# Altium schematic symbol library MCU_ST_STM32MP1.SchLib: 84 symbols (part 1 of 7)
Pins are listed as number, name and electrical type; pins without a type are passive.

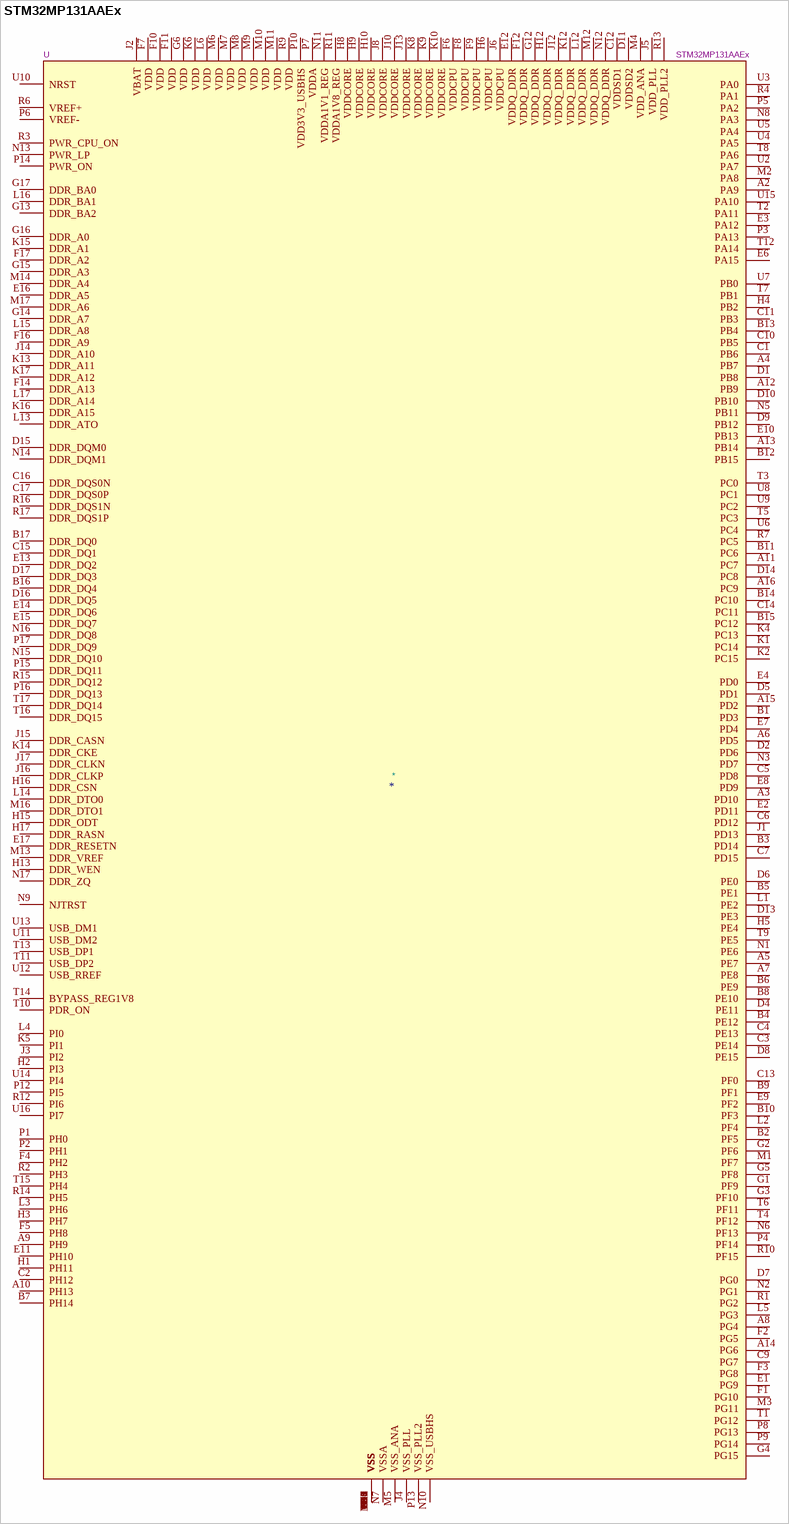
[diagram p0: symbol STM32MP131AAEx]

## STM32MP131AAEx
designator *  value STM32MP131AAEx  Reference: U
STMicroelectronics Arm Cortex-A7 MCU, 0KB flash, 168KB RAM, 136 GPIO, LFBGA289; ki_keywords: Arm Cortex-A7 STM32MP1 STM32MP131; ki_fp_filters: LFBGA*14x14mm*Layout17x17*P0.8mm*; Footprint: Package_BGA:LFBGA-289_14x14mm_Layout17x17_P0.8mm; Datasheet: https://www.st.com/resource/en/datasheet/stm32mp131a.pdf; Description_: STMicroelectronics Arm Cortex-A7 MCU, 0KB flash, 168KB RAM, 136 GPIO, LFBGA289
pins: A1 VSS, A2 PA9, A3 PD10, A4 PB7, A5 PE7, A6 PD5, A7 PE8, A8 PG4, A9 PH9, A10 PH13, A11 PC7, A12 PB9, A13 PB14, A14 PG6, A15 PD2, A16 PC9, A17 VSS, B1 PD3, B2 PF5, B3 PD14, B4 PE12, B5 PE1, B6 PE9, B7 PH14, B8 PE10, B9 PF1, B10 PF3, B11 PC6, B12 PB15, B13 PB4, B14 PC10, B15 PC12, B16 DDR_DQ4, B17 DDR_DQ0, C1 PB6, C2 PH12, C3 PE14, C4 PE13, C5 PD8, C6 PD12, C7 PD15, C8 VSS, C9 PG7, C10 PB5, C11 PB3, C12 VDDSD1, C13 PF0, C14 PC11, C15 DDR_DQ1, C16 DDR_DQS0N, C17 DDR_DQS0P, D1 PB8, D2 PD6, D3 VSS, D4 PE11, D5 PD1, D6 PE0, D7 PG0, D8 PE15, D9 PB12, D10 PB10, D11 VDDSD2, D12 VSS, D13 PE3, D14 PC8, D15 DDR_DQM0, D16 DDR_DQ5, D17 DDR_DQ3, E1 PG9, E2 PD11, E3 PA12, E4 PD0, E5 VSS, E6 PA15, E7 PD4, E8 PD9, E9 PF2, E10 PB13, E11 PH10, E12 VDDQ_DDR, E13 DDR_DQ2, E14 DDR_DQ6, E15 DDR_DQ7, E16 DDR_A5, E17 DDR_RESETN, F1 PG10, F2 PG5, F3 PG8, F4 PH2, F5 PH8, F6 VDDCPU, F7 VDD, F8 VDDCPU, F9 VDDCPU, F10 VDD, F11 VDD, F12 VDDQ_DDR, F13 VSS, F14 DDR_A13, F15 VSS, F16 DDR_A9, F17 DDR_A2, G1 PF9, G2 PF6, G3 PF10, G4 PG15, G5 PF8, G6 VDD, G7 VSS, G8 VSS, G9 VSS, G10 VSS, G11 VSS, G12 VDDQ_DDR, G13 DDR_BA2, G14 DDR_A7, G15 DDR_A3, G16 DDR_A0, G17 DDR_BA0, H1 PH11, H2 PI3, H3 PH7, H4 PB2, H5 PE4, H6 VDDCPU, H7 VSS, H8 VDDCORE, H9 VDDCORE, H10 VDDCORE, H11 VSS, H12 VDDQ_DDR, H13 DDR_WEN, H14 VSS, H15 DDR_ODT, H16 DDR_CSN, H17 DDR_RASN, J1 PD13, J2 VBAT, J3 PI2, J4 VSS_PLL, J5 VDD_PLL, J6 VDDCPU, J7 VSS, J8 VDDCORE, J9 VSS, J10 VDDCORE, J11 VSS, J12 VDDQ_DDR, J13 VDDCORE, J14 DDR_A10, J15 DDR_CASN, J16 DDR_CLKP, J17 DDR_CLKN, K1 PC14, K2 PC15, K3 VSS, K4 PC13, K5 PI1, K6 VDD, K7 VSS, K8 VDDCORE, K9 VDDCORE, K10 VDDCORE, K11 VSS, K12 VDDQ_DDR, K13 DDR_A11, K14 DDR_CKE, K15 DDR_A1, K16 DDR_A15, K17 DDR_A12, L1 PE2, L2 PF4, L3 PH6, L4 PI0, L5 PG3, L6 VDD, L7 VSS, L8 VSS, L9 VSS, L10 VSS, L11 VSS, L12 VDDQ_DDR, L13 DDR_ATO, L14 DDR_DTO0, L15 DDR_A8, L16 DDR_BA1, L17 DDR_A14, M1 PF7, M2 PA8, M3 PG11, M4 VDD_ANA, M5 VSS_ANA, M6 VDD, M7 VDD, M8 VDD, M9 VDD, M10 VDD, M11 VDD, M12 VDDQ_DDR, M13 DDR_VREF, M14 DDR_A4, M15 VSS, M16 DDR_DTO1, M17 DDR_A6, N1 PE6, N2 PG1, N3 PD7, N4 VSS, N5 PB11, N6 PF13, N7 VSSA, N8 PA3, N9 NJTRST, N10 VSS_USBHS, N11 VDDA1V1_REG, N12 VDDQ_DDR, N13 PWR_LP, N14 DDR_DQM1, N15 DDR_DQ10, N16 DDR_DQ8, N17 DDR_ZQ, P1 PH0, P2 PH1, P3 PA13, P4 PF14, P5 PA2, P6 VREF-, P7 VDDA, P8 PG13, P9 PG14, P10 VDD3V3_USBHS, P11 VSS, P12 PI5, P13 VSS_PLL2, P14 PWR_ON, P15 DDR_DQ11, P16 DDR_DQ13, P17 DDR_DQ9, R1 PG2, R2 PH3, R3 PWR_CPU_ON, R4 PA1, R5 VSS, R6 VREF+, R7 PC5, R8 VSS, R9 VDD, R10 PF15, R11 VDDA1V8_REG, R12 PI6, R13 VDD_PLL2, R14 PH5, R15 DDR_DQ12, R16 DDR_DQS1N, R17 DDR_DQS1P, T1 PG12, T2 PA11, T3 PC0, T4 PF12, T5 PC3, T6 PF11, T7 PB1, T8 PA6, T9 PE5, T10 PDR_ON, T11 USB_DP2, T12 PA14, T13 USB_DP1, T14 BYPASS_REG1V8, T15 PH4, T16 DDR_DQ15, T17 DDR_DQ14, U1 VSS, U2 PA7, U3 PA0, U4 PA5, U5 PA4, U6 PC4, U7 PB0, U8 PC1, U9 PC2, U10 NRST, U11 USB_DM2, U12 USB_RREF, U13 USB_DM1, U14 PI4, U15 PA10, U16 PI7, U17 VSS

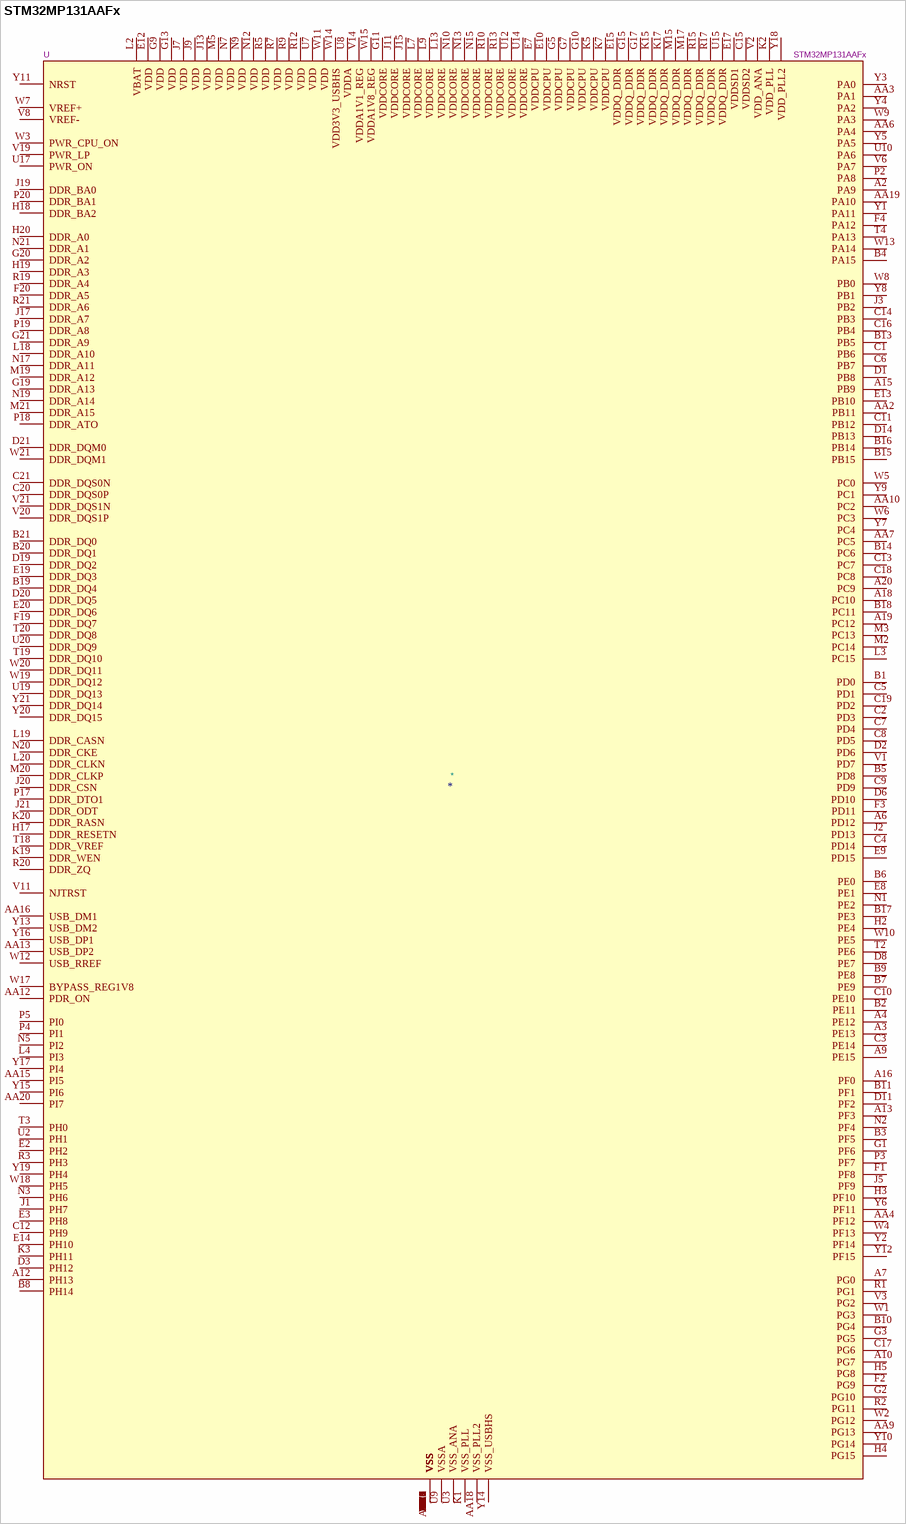
[diagram p1: symbol STM32MP131AAFx]

## STM32MP131AAFx
designator *  value STM32MP131AAFx  Reference: U
STMicroelectronics Arm Cortex-A7 MCU, 0KB flash, 168KB RAM, 136 GPIO, TFBGA320; ki_keywords: Arm Cortex-A7 STM32MP1 STM32MP131; ki_fp_filters: ST*TFBGA*11x11mm*Layout21x21*P0.5mm*; Footprint: Package_BGA:ST_TFBGA-320_11x11mm_Layout21x21_P0.5mm; Datasheet: https://www.st.com/resource/en/datasheet/stm32mp131a.pdf; Description_: STMicroelectronics Arm Cortex-A7 MCU, 0KB flash, 168KB RAM, 136 GPIO, TFBGA320
pins: A1 VSS, A2 PA9, A3 PE13, A4 PE12, A6 PD12, A7 PG0, A9 PE15, A10 PG7, A12 PH13, A13 PF3, A15 PB9, A16 PF0, A18 PC10, A19 PC12, A20 PC9, A21 VSS, AA1 VSS, AA2 PB11, AA3 PA1, AA4 PF12, AA6 PA4, AA7 PC5, AA9 PG13, AA10 PC2, AA12 PDR_ON, AA13 USB_DP2, AA15 PI5, AA16 USB_DM1, AA18 VSS_PLL2, AA19 PA10, AA20 PI7, AA21 VSS, B1 PD0, B2 PE11, B3 PF5, B4 PA15, B5 PD8, B6 PE0, B7 PE9, B8 PH14, B9 PE8, B10 PG4, B11 PF1, B12 VSS, B13 PB5, B14 PC6, B15 PB15, B16 PB14, B17 PE3, B18 PC11, B19 DDR_DQ4, B20 DDR_DQ1, B21 DDR_DQ0, C1 PB6, C2 PD3, C3 PE14, C4 PD14, C5 PD1, C6 PB7, C7 PD4, C8 PD5, C9 PD9, C10 PE10, C11 PB12, C12 PH9, C13 PC7, C14 PB3, C15 VDDSD2, C16 PB4, C17 PG6, C18 PC8, C19 PD2, C20 DDR_DQS0P, C21 DDR_DQS0N, D1 PB8, D2 PD6, D3 PH12, D6 PD10, D8 PE7, D11 PF2, D14 PB13, D16 VSS, D19 DDR_DQ2, D20 DDR_DQ5, D21 DDR_DQM0, E2 PH2, E3 PH8, E5 VSS, E6 VSS, E7 VDDCPU, E8 PE1, E9 PD15, E10 VDDCPU, E11 VSS, E12 VDD, E13 PB10, E14 PH10, E15 VDDQ_DDR, E16 VSS, E17 VDDSD1, E19 DDR_DQ3, E20 DDR_DQ6, F1 PF8, F2 PG9, F3 PD11, F4 PA12, F5 VSS, F17 VSS, F18 VSS, F19 DDR_DQ7, F20 DDR_A5, F21 VSS, G1 PF6, G2 PG10, G3 PG5, G5 VDDCPU, G7 VDDCPU, G8 VSS, G9 VDD, G10 VDDCPU, G11 VDDCORE, G12 VSS, G13 VDD, G14 VSS, G15 VDDQ_DDR, G17 VDDQ_DDR, G19 DDR_A13, G20 DDR_A2, G21 DDR_A9, H2 PE4, H3 PF10, H4 PG15, H5 PG8, H7 VSS, H15 VSS, H17 DDR_RESETN, H18 DDR_BA2, H19 DDR_A3, H20 DDR_A0, J1 PH7, J2 PD13, J3 PB2, J5 PF9, J7 VDD, J9 VDD, J10 VSS, J11 VDDCORE, J12 VSS, J13 VDD, J15 VDDCORE, J17 DDR_A7, J19 DDR_BA0, J20 DDR_CSN, J21 DDR_ODT, K1 VSS_PLL, K2 VDD_PLL, K3 PH11, K5 VDDCPU, K7 VDDCPU, K9 VSS, K10 VSS, K11 VSS, K12 VSS, K13 VSS, K15 VDDQ_DDR, K17 VDDQ_DDR, K19 DDR_WEN, K20 DDR_RASN, K21 VSS, L2 VBAT, L3 PC15, L4 PI3, L5 VSS, L7 VDDCORE, L9 VDDCORE, L10 VSS, L12 VSS, L13 VDDCORE, L15 VSS, L17 VSS, L18 DDR_A10, L19 DDR_CASN, L20 DDR_CLKN, M1 VSS, M2 PC14, M3 PC13, M5 VDD, M7 VSS, M9 VSS, M10 VSS, M11 VSS, M12 VSS, M13 VSS, M15 VDDQ_DDR, M17 VDDQ_DDR, M19 DDR_A12, M20 DDR_CLKP, M21 DDR_A15, N1 PE2, N2 PF4, N3 PH6, N5 PI2, N7 VDD, N9 VDD, N10 VDDCORE, N11 VSS, N12 VDD, N13 VDDCORE, N15 VDDCORE, N17 DDR_A11, N19 DDR_A14, N20 DDR_CKE, N21 DDR_A1, P2 PA8, P3 PF7, P4 PI1, P5 PI0, P7 VSS, P15 VSS, P17 DDR_DTO1, P18 DDR_ATO, P19 DDR_A8, P20 DDR_BA1, R1 PG1, R2 PG11, R3 PH3, R5 VDD, R7 VDD, R8 VSS, R9 VDD, R10 VDDCORE, R11 VSS, R12 VDD, R13 VDDCORE, R14 VSS, R15 VDDQ_DDR, R17 VDDQ_DDR, R19 DDR_A4, R20 DDR_ZQ, R21 DDR_A6, T1 VSS, T2 PE6, T3 PH0, T4 PA13, T5 VSS, T17 VSS, T18 DDR_VREF, T19 DDR_DQ10, T20 DDR_DQ8, T21 VSS, U2 PH1, U3 VSS_ANA, U5 VSS, U6 VSS, U7 VDD, U8 VDDA, U9 VSSA, U10 PA6, U11 VSS, U12 VDDCORE, U13 VSS, U14 VDDCORE, U15 VDDQ_DDR, U16 VSS, U17 PWR_ON, U19 DDR_DQ13, U20 DDR_DQ9, V1 PD7, V2 VDD_ANA, V3 PG2, V6 PA7, V8 VREF-, V11 NJTRST, V14 VDDA1V1_REG, V16 VSS, V19 PWR_LP, V20 DDR_DQS1P, V21 DDR_DQS1N, W1 PG3, W2 PG12, W3 PWR_CPU_ON, W4 PF13, W5 PC0, W6 PC3, W7 VREF+, W8 PB0, W9 PA3, W10 PE5, W11 VDD, W12 USB_RREF, W13 PA14, W14 VDD3V3_USBHS, W15 VDDA1V8_REG, W16 VSS, W17 BYPASS_REG1V8, W18 PH5, W19 DDR_DQ12, W20 DDR_DQ11, W21 DDR_DQM1, Y1 PA11, Y2 PF14, Y3 PA0, Y4 PA2, Y5 PA5, Y6 PF11, Y7 PC4, Y8 PB1, Y9 PC1, Y10 PG14, Y11 NRST, Y12 PF15, Y13 USB_DM2, Y14 VSS_USBHS, Y15 PI6, Y16 USB_DP1, Y17 PI4, Y18 VDD_PLL2, Y19 PH4, Y20 DDR_DQ15, Y21 DDR_DQ14

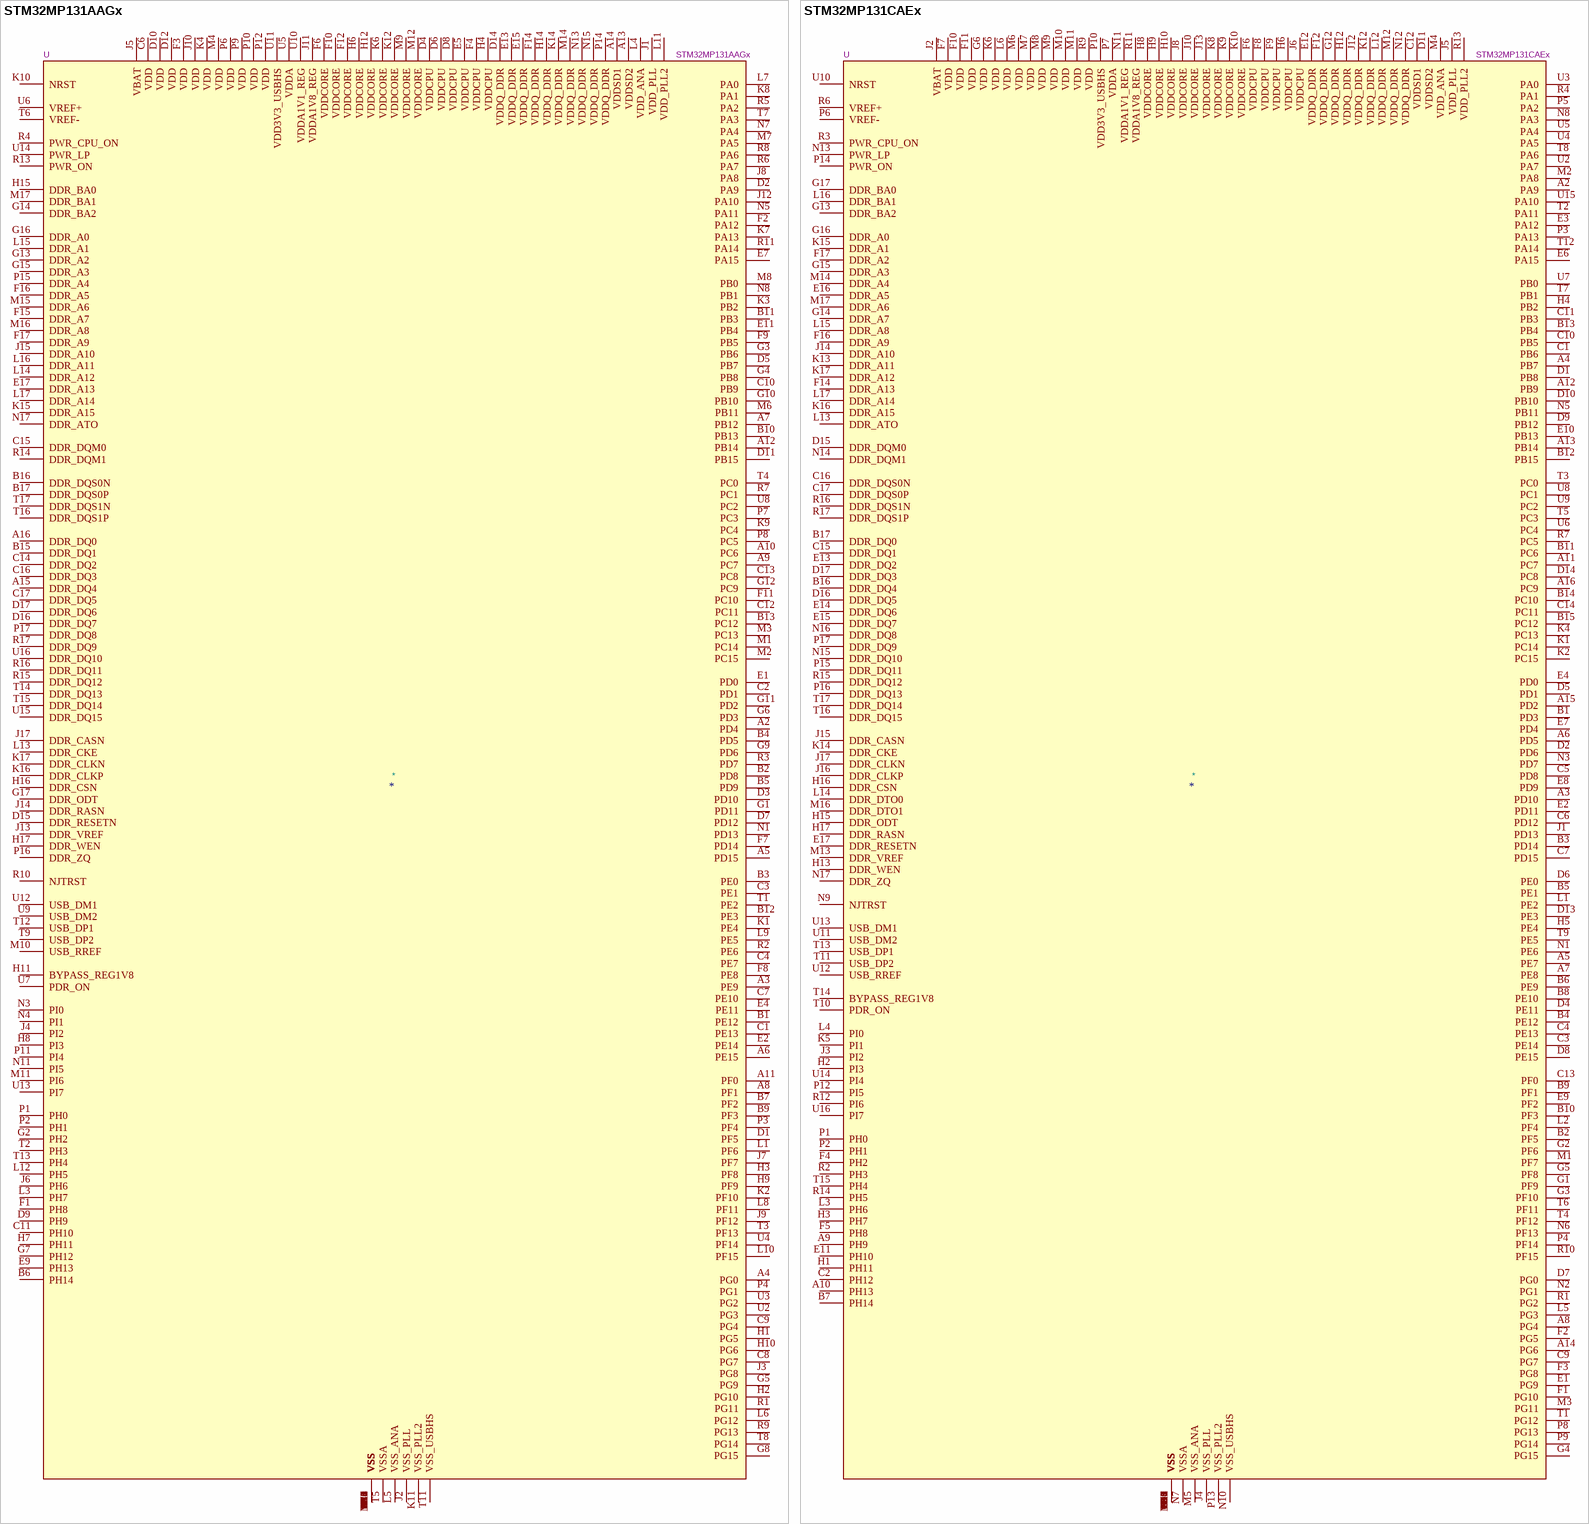
[diagram p2: symbols STM32MP131AAGx to STM32MP131CAEx]

## STM32MP131AAGx
designator *  value STM32MP131AAGx  Reference: U
STMicroelectronics Arm Cortex-A7 MCU, 0KB flash, 168KB RAM, 136 GPIO, TFBGA289; ki_keywords: Arm Cortex-A7 STM32MP1 STM32MP131; ki_fp_filters: TFBGA*9x9mm*Layout17x17*P0.5mm*; Footprint: Package_BGA:TFBGA-289_9x9mm_Layout17x17_P0.5mm; Datasheet: https://www.st.com/resource/en/datasheet/stm32mp131a.pdf; Description_: STMicroelectronics Arm Cortex-A7 MCU, 0KB flash, 168KB RAM, 136 GPIO, TFBGA289
pins: A1 VSS, A2 PD4, A3 PE9, A4 PG0, A5 PD15, A6 PE15, A7 PB12, A8 PF1, A9 PC7, A10 PC6, A11 PF0, A12 PB14, A13 VDDSD2, A14 VDDSD1, A15 DDR_DQ4, A16 DDR_DQ0, A17 VSS, B1 PE12, B2 PD8, B3 PE0, B4 PD5, B5 PD9, B6 PH14, B7 PF2, B8 VSS, B9 PF3, B10 PB13, B11 PB3, B12 PE3, B13 PC12, B14 VSS, B15 DDR_DQ1, B16 DDR_DQS0N, B17 DDR_DQS0P, C1 PE13, C2 PD1, C3 PE1, C4 PE7, C5 VSS, C6 VDD, C7 PE10, C8 PG7, C9 PG4, C10 PB9, C11 PH10, C12 PC11, C13 PC8, C14 DDR_DQ2, C15 DDR_DQM0, C16 DDR_DQ3, C17 DDR_DQ5, D1 PF5, D2 PA9, D3 PD10, D4 VDDCPU, D5 PB7, D6 VDDCPU, D7 PD12, D8 VDDCPU, D9 PH9, D10 VDD, D11 PB15, D12 VDD, D13 VSS, D14 VDDQ_DDR, D15 DDR_RESETN, D16 DDR_DQ7, D17 DDR_DQ6, E1 PD0, E2 PE14, E3 VSS, E4 PE11, E5 VDDCPU, E6 VSS, E7 PA15, E8 VSS, E9 PH13, E10 VSS, E11 PB4, E12 VSS, E13 VDDQ_DDR, E14 VSS, E15 VDDQ_DDR, E16 VSS, E17 DDR_A13, F1 PH8, F2 PA12, F3 VDD, F4 VDDCPU, F5 VSS, F6 VDDCORE, F7 PD14, F8 PE8, F9 PB5, F10 VDDCORE, F11 PC10, F12 VDDCORE, F13 VSS, F14 VDDQ_DDR, F15 DDR_A7, F16 DDR_A5, F17 DDR_A9, G1 PD11, G2 PH2, G3 PB6, G4 PB8, G5 PG9, G6 PD3, G7 PH12, G8 PG15, G9 PD6, G10 PB10, G11 PD2, G12 PC9, G13 DDR_A2, G14 DDR_BA2, G15 DDR_A3, G16 DDR_A0, G17 DDR_ODT, H1 PG5, H2 PG10, H3 PF8, H4 VDDCPU, H5 VSS, H6 VDDCORE, H7 PH11, H8 PI3, H9 PF9, H10 PG6, H11 BYPASS_REG1V8, H12 VDDCORE, H13 VSS, H14 VDDQ_DDR, H15 DDR_BA0, H16 DDR_CSN, H17 DDR_WEN, J1 VDD_PLL, J2 VSS_PLL, J3 PG8, J4 PI2, J5 VBAT, J6 PH6, J7 PF7, J8 PA8, J9 PF12, J10 VDD, J11 VDDA1V8_REG, J12 PA10, J13 DDR_VREF, J14 DDR_RASN, J15 DDR_A10, J16 VSS, J17 DDR_CASN, K1 PE4, K2 PF10, K3 PB2, K4 VDD, K5 VSS, K6 VDDCORE, K7 PA13, K8 PA1, K9 PC4, K10 NRST, K11 VSS_PLL2, K12 VDDCORE, K13 VSS, K14 VDDQ_DDR, K15 DDR_A15, K16 DDR_CLKP, K17 DDR_CLKN, L1 PF6, L2 VSS, L3 PH7, L4 VDD_ANA, L5 VSS_ANA, L6 PG12, L7 PA0, L8 PF11, L9 PE5, L10 PF15, L11 VDD_PLL2, L12 PH5, L13 DDR_CKE, L14 DDR_A12, L15 DDR_A1, L16 DDR_A11, L17 DDR_A14, M1 PC14, M2 PC15, M3 PC13, M4 VDD, M5 VSS, M6 PB11, M7 PA5, M8 PB0, M9 VDDCORE, M10 USB_RREF, M11 PI6, M12 VDDCORE, M13 VSS, M14 VDDQ_DDR, M15 DDR_A6, M16 DDR_A8, M17 DDR_BA1, N1 PD13, N2 VSS, N3 PI0, N4 PI1, N5 PA11, N6 VSS, N7 PA4, N8 PB1, N9 VSS, N10 VSS, N11 PI5, N12 VSS, N13 VDDQ_DDR, N14 VSS, N15 VDDQ_DDR, N16 VSS, N17 DDR_ATO, P1 PH0, P2 PH1, P3 PF4, P4 PG1, P5 VSS, P6 VDD, P7 PC3, P8 PC5, P9 VDD, P10 VDD, P11 PI4, P12 VDD, P13 VSS, P14 VDDQ_DDR, P15 DDR_A4, P16 DDR_ZQ, P17 DDR_DQ8, R1 PG11, R2 PE6, R3 PD7, R4 PWR_CPU_ON, R5 PA2, R6 PA7, R7 PC1, R8 PA6, R9 PG13, R10 NJTRST, R11 PA14, R12 VSS, R13 PWR_ON, R14 DDR_DQM1, R15 DDR_DQ12, R16 DDR_DQ11, R17 DDR_DQ9, T1 PE2, T2 PH3, T3 PF13, T4 PC0, T5 VSSA, T6 VREF-, T7 PA3, T8 PG14, T9 USB_DP2, T10 VSS, T11 VSS_USBHS, T12 USB_DP1, T13 PH4, T14 DDR_DQ13, T15 DDR_DQ14, T16 DDR_DQS1P, T17 DDR_DQS1N, U1 VSS, U2 PG3, U3 PG2, U4 PF14, U5 VDDA, U6 VREF+, U7 PDR_ON, U8 PC2, U9 USB_DM2, U10 VDDA1V1_REG, U11 VDD3V3_USBHS, U12 USB_DM1, U13 PI7, U14 PWR_LP, U15 DDR_DQ15, U16 DDR_DQ10, U17 VSS

## STM32MP131CAEx
designator *  value STM32MP131CAEx  Reference: U
STMicroelectronics Arm Cortex-A7 MCU, 0KB flash, 168KB RAM, 136 GPIO, LFBGA289; ki_keywords: Arm Cortex-A7 STM32MP1 STM32MP131; ki_fp_filters: LFBGA*14x14mm*Layout17x17*P0.8mm*; Footprint: Package_BGA:LFBGA-289_14x14mm_Layout17x17_P0.8mm; Datasheet: https://www.st.com/resource/en/datasheet/stm32mp131c.pdf; Description_: STMicroelectronics Arm Cortex-A7 MCU, 0KB flash, 168KB RAM, 136 GPIO, LFBGA289
pins: A1 VSS, A2 PA9, A3 PD10, A4 PB7, A5 PE7, A6 PD5, A7 PE8, A8 PG4, A9 PH9, A10 PH13, A11 PC7, A12 PB9, A13 PB14, A14 PG6, A15 PD2, A16 PC9, A17 VSS, B1 PD3, B2 PF5, B3 PD14, B4 PE12, B5 PE1, B6 PE9, B7 PH14, B8 PE10, B9 PF1, B10 PF3, B11 PC6, B12 PB15, B13 PB4, B14 PC10, B15 PC12, B16 DDR_DQ4, B17 DDR_DQ0, C1 PB6, C2 PH12, C3 PE14, C4 PE13, C5 PD8, C6 PD12, C7 PD15, C8 VSS, C9 PG7, C10 PB5, C11 PB3, C12 VDDSD1, C13 PF0, C14 PC11, C15 DDR_DQ1, C16 DDR_DQS0N, C17 DDR_DQS0P, D1 PB8, D2 PD6, D3 VSS, D4 PE11, D5 PD1, D6 PE0, D7 PG0, D8 PE15, D9 PB12, D10 PB10, D11 VDDSD2, D12 VSS, D13 PE3, D14 PC8, D15 DDR_DQM0, D16 DDR_DQ5, D17 DDR_DQ3, E1 PG9, E2 PD11, E3 PA12, E4 PD0, E5 VSS, E6 PA15, E7 PD4, E8 PD9, E9 PF2, E10 PB13, E11 PH10, E12 VDDQ_DDR, E13 DDR_DQ2, E14 DDR_DQ6, E15 DDR_DQ7, E16 DDR_A5, E17 DDR_RESETN, F1 PG10, F2 PG5, F3 PG8, F4 PH2, F5 PH8, F6 VDDCPU, F7 VDD, F8 VDDCPU, F9 VDDCPU, F10 VDD, F11 VDD, F12 VDDQ_DDR, F13 VSS, F14 DDR_A13, F15 VSS, F16 DDR_A9, F17 DDR_A2, G1 PF9, G2 PF6, G3 PF10, G4 PG15, G5 PF8, G6 VDD, G7 VSS, G8 VSS, G9 VSS, G10 VSS, G11 VSS, G12 VDDQ_DDR, G13 DDR_BA2, G14 DDR_A7, G15 DDR_A3, G16 DDR_A0, G17 DDR_BA0, H1 PH11, H2 PI3, H3 PH7, H4 PB2, H5 PE4, H6 VDDCPU, H7 VSS, H8 VDDCORE, H9 VDDCORE, H10 VDDCORE, H11 VSS, H12 VDDQ_DDR, H13 DDR_WEN, H14 VSS, H15 DDR_ODT, H16 DDR_CSN, H17 DDR_RASN, J1 PD13, J2 VBAT, J3 PI2, J4 VSS_PLL, J5 VDD_PLL, J6 VDDCPU, J7 VSS, J8 VDDCORE, J9 VSS, J10 VDDCORE, J11 VSS, J12 VDDQ_DDR, J13 VDDCORE, J14 DDR_A10, J15 DDR_CASN, J16 DDR_CLKP, J17 DDR_CLKN, K1 PC14, K2 PC15, K3 VSS, K4 PC13, K5 PI1, K6 VDD, K7 VSS, K8 VDDCORE, K9 VDDCORE, K10 VDDCORE, K11 VSS, K12 VDDQ_DDR, K13 DDR_A11, K14 DDR_CKE, K15 DDR_A1, K16 DDR_A15, K17 DDR_A12, L1 PE2, L2 PF4, L3 PH6, L4 PI0, L5 PG3, L6 VDD, L7 VSS, L8 VSS, L9 VSS, L10 VSS, L11 VSS, L12 VDDQ_DDR, L13 DDR_ATO, L14 DDR_DTO0, L15 DDR_A8, L16 DDR_BA1, L17 DDR_A14, M1 PF7, M2 PA8, M3 PG11, M4 VDD_ANA, M5 VSS_ANA, M6 VDD, M7 VDD, M8 VDD, M9 VDD, M10 VDD, M11 VDD, M12 VDDQ_DDR, M13 DDR_VREF, M14 DDR_A4, M15 VSS, M16 DDR_DTO1, M17 DDR_A6, N1 PE6, N2 PG1, N3 PD7, N4 VSS, N5 PB11, N6 PF13, N7 VSSA, N8 PA3, N9 NJTRST, N10 VSS_USBHS, N11 VDDA1V1_REG, N12 VDDQ_DDR, N13 PWR_LP, N14 DDR_DQM1, N15 DDR_DQ10, N16 DDR_DQ8, N17 DDR_ZQ, P1 PH0, P2 PH1, P3 PA13, P4 PF14, P5 PA2, P6 VREF-, P7 VDDA, P8 PG13, P9 PG14, P10 VDD3V3_USBHS, P11 VSS, P12 PI5, P13 VSS_PLL2, P14 PWR_ON, P15 DDR_DQ11, P16 DDR_DQ13, P17 DDR_DQ9, R1 PG2, R2 PH3, R3 PWR_CPU_ON, R4 PA1, R5 VSS, R6 VREF+, R7 PC5, R8 VSS, R9 VDD, R10 PF15, R11 VDDA1V8_REG, R12 PI6, R13 VDD_PLL2, R14 PH5, R15 DDR_DQ12, R16 DDR_DQS1N, R17 DDR_DQS1P, T1 PG12, T2 PA11, T3 PC0, T4 PF12, T5 PC3, T6 PF11, T7 PB1, T8 PA6, T9 PE5, T10 PDR_ON, T11 USB_DP2, T12 PA14, T13 USB_DP1, T14 BYPASS_REG1V8, T15 PH4, T16 DDR_DQ15, T17 DDR_DQ14, U1 VSS, U2 PA7, U3 PA0, U4 PA5, U5 PA4, U6 PC4, U7 PB0, U8 PC1, U9 PC2, U10 NRST, U11 USB_DM2, U12 USB_RREF, U13 USB_DM1, U14 PI4, U15 PA10, U16 PI7, U17 VSS

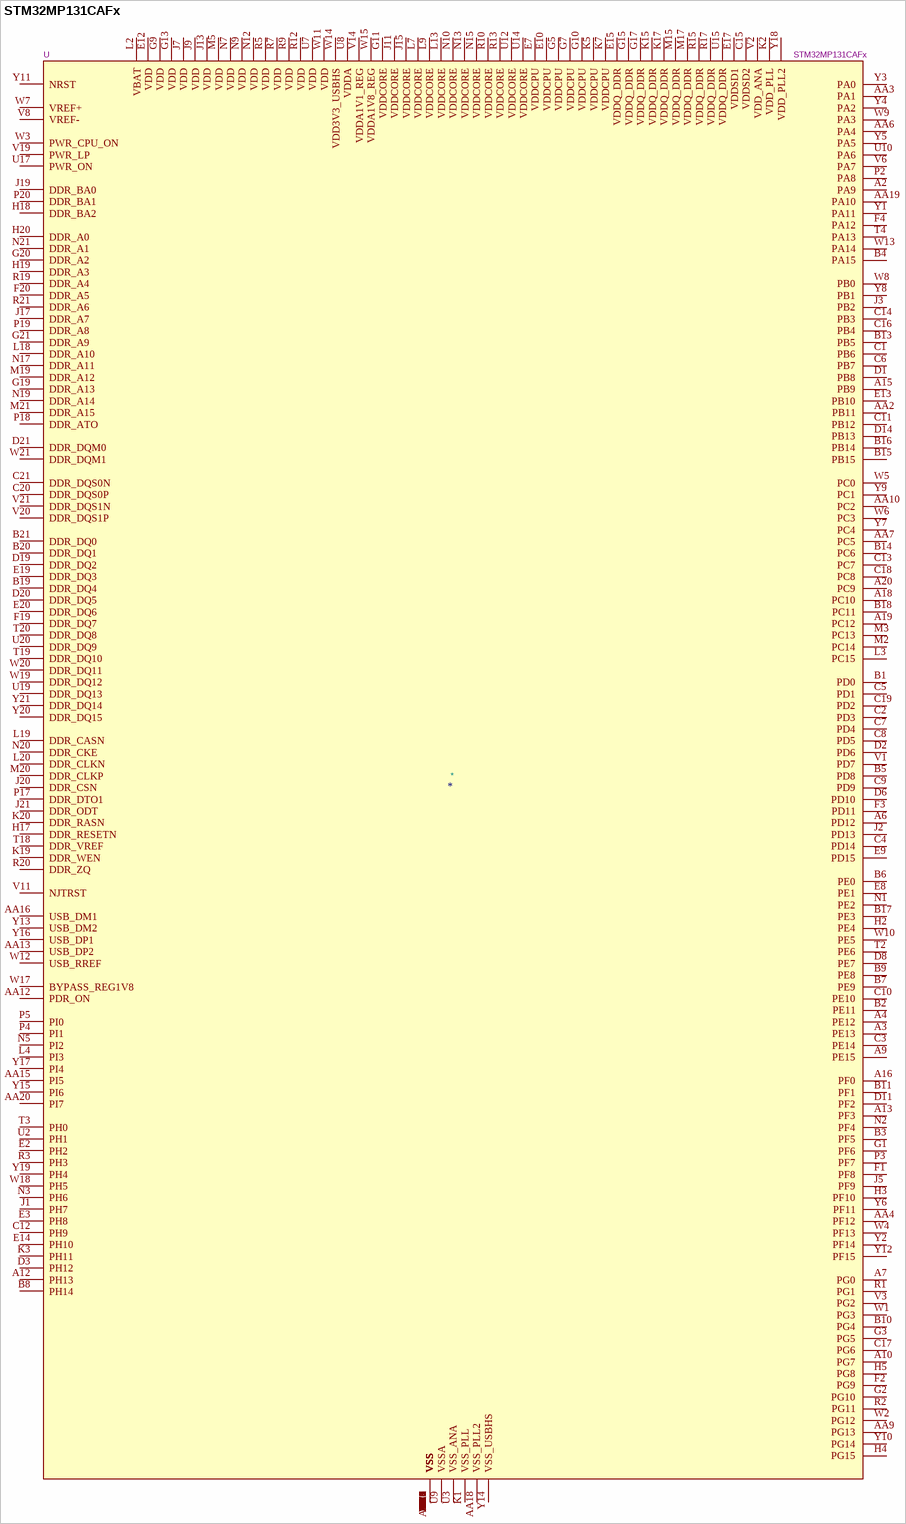
[diagram p3: symbol STM32MP131CAFx]

## STM32MP131CAFx
designator *  value STM32MP131CAFx  Reference: U
STMicroelectronics Arm Cortex-A7 MCU, 0KB flash, 168KB RAM, 136 GPIO, TFBGA320; ki_keywords: Arm Cortex-A7 STM32MP1 STM32MP131; ki_fp_filters: ST*TFBGA*11x11mm*Layout21x21*P0.5mm*; Footprint: Package_BGA:ST_TFBGA-320_11x11mm_Layout21x21_P0.5mm; Datasheet: https://www.st.com/resource/en/datasheet/stm32mp131c.pdf; Description_: STMicroelectronics Arm Cortex-A7 MCU, 0KB flash, 168KB RAM, 136 GPIO, TFBGA320
pins: A1 VSS, A2 PA9, A3 PE13, A4 PE12, A6 PD12, A7 PG0, A9 PE15, A10 PG7, A12 PH13, A13 PF3, A15 PB9, A16 PF0, A18 PC10, A19 PC12, A20 PC9, A21 VSS, AA1 VSS, AA2 PB11, AA3 PA1, AA4 PF12, AA6 PA4, AA7 PC5, AA9 PG13, AA10 PC2, AA12 PDR_ON, AA13 USB_DP2, AA15 PI5, AA16 USB_DM1, AA18 VSS_PLL2, AA19 PA10, AA20 PI7, AA21 VSS, B1 PD0, B2 PE11, B3 PF5, B4 PA15, B5 PD8, B6 PE0, B7 PE9, B8 PH14, B9 PE8, B10 PG4, B11 PF1, B12 VSS, B13 PB5, B14 PC6, B15 PB15, B16 PB14, B17 PE3, B18 PC11, B19 DDR_DQ4, B20 DDR_DQ1, B21 DDR_DQ0, C1 PB6, C2 PD3, C3 PE14, C4 PD14, C5 PD1, C6 PB7, C7 PD4, C8 PD5, C9 PD9, C10 PE10, C11 PB12, C12 PH9, C13 PC7, C14 PB3, C15 VDDSD2, C16 PB4, C17 PG6, C18 PC8, C19 PD2, C20 DDR_DQS0P, C21 DDR_DQS0N, D1 PB8, D2 PD6, D3 PH12, D6 PD10, D8 PE7, D11 PF2, D14 PB13, D16 VSS, D19 DDR_DQ2, D20 DDR_DQ5, D21 DDR_DQM0, E2 PH2, E3 PH8, E5 VSS, E6 VSS, E7 VDDCPU, E8 PE1, E9 PD15, E10 VDDCPU, E11 VSS, E12 VDD, E13 PB10, E14 PH10, E15 VDDQ_DDR, E16 VSS, E17 VDDSD1, E19 DDR_DQ3, E20 DDR_DQ6, F1 PF8, F2 PG9, F3 PD11, F4 PA12, F5 VSS, F17 VSS, F18 VSS, F19 DDR_DQ7, F20 DDR_A5, F21 VSS, G1 PF6, G2 PG10, G3 PG5, G5 VDDCPU, G7 VDDCPU, G8 VSS, G9 VDD, G10 VDDCPU, G11 VDDCORE, G12 VSS, G13 VDD, G14 VSS, G15 VDDQ_DDR, G17 VDDQ_DDR, G19 DDR_A13, G20 DDR_A2, G21 DDR_A9, H2 PE4, H3 PF10, H4 PG15, H5 PG8, H7 VSS, H15 VSS, H17 DDR_RESETN, H18 DDR_BA2, H19 DDR_A3, H20 DDR_A0, J1 PH7, J2 PD13, J3 PB2, J5 PF9, J7 VDD, J9 VDD, J10 VSS, J11 VDDCORE, J12 VSS, J13 VDD, J15 VDDCORE, J17 DDR_A7, J19 DDR_BA0, J20 DDR_CSN, J21 DDR_ODT, K1 VSS_PLL, K2 VDD_PLL, K3 PH11, K5 VDDCPU, K7 VDDCPU, K9 VSS, K10 VSS, K11 VSS, K12 VSS, K13 VSS, K15 VDDQ_DDR, K17 VDDQ_DDR, K19 DDR_WEN, K20 DDR_RASN, K21 VSS, L2 VBAT, L3 PC15, L4 PI3, L5 VSS, L7 VDDCORE, L9 VDDCORE, L10 VSS, L12 VSS, L13 VDDCORE, L15 VSS, L17 VSS, L18 DDR_A10, L19 DDR_CASN, L20 DDR_CLKN, M1 VSS, M2 PC14, M3 PC13, M5 VDD, M7 VSS, M9 VSS, M10 VSS, M11 VSS, M12 VSS, M13 VSS, M15 VDDQ_DDR, M17 VDDQ_DDR, M19 DDR_A12, M20 DDR_CLKP, M21 DDR_A15, N1 PE2, N2 PF4, N3 PH6, N5 PI2, N7 VDD, N9 VDD, N10 VDDCORE, N11 VSS, N12 VDD, N13 VDDCORE, N15 VDDCORE, N17 DDR_A11, N19 DDR_A14, N20 DDR_CKE, N21 DDR_A1, P2 PA8, P3 PF7, P4 PI1, P5 PI0, P7 VSS, P15 VSS, P17 DDR_DTO1, P18 DDR_ATO, P19 DDR_A8, P20 DDR_BA1, R1 PG1, R2 PG11, R3 PH3, R5 VDD, R7 VDD, R8 VSS, R9 VDD, R10 VDDCORE, R11 VSS, R12 VDD, R13 VDDCORE, R14 VSS, R15 VDDQ_DDR, R17 VDDQ_DDR, R19 DDR_A4, R20 DDR_ZQ, R21 DDR_A6, T1 VSS, T2 PE6, T3 PH0, T4 PA13, T5 VSS, T17 VSS, T18 DDR_VREF, T19 DDR_DQ10, T20 DDR_DQ8, T21 VSS, U2 PH1, U3 VSS_ANA, U5 VSS, U6 VSS, U7 VDD, U8 VDDA, U9 VSSA, U10 PA6, U11 VSS, U12 VDDCORE, U13 VSS, U14 VDDCORE, U15 VDDQ_DDR, U16 VSS, U17 PWR_ON, U19 DDR_DQ13, U20 DDR_DQ9, V1 PD7, V2 VDD_ANA, V3 PG2, V6 PA7, V8 VREF-, V11 NJTRST, V14 VDDA1V1_REG, V16 VSS, V19 PWR_LP, V20 DDR_DQS1P, V21 DDR_DQS1N, W1 PG3, W2 PG12, W3 PWR_CPU_ON, W4 PF13, W5 PC0, W6 PC3, W7 VREF+, W8 PB0, W9 PA3, W10 PE5, W11 VDD, W12 USB_RREF, W13 PA14, W14 VDD3V3_USBHS, W15 VDDA1V8_REG, W16 VSS, W17 BYPASS_REG1V8, W18 PH5, W19 DDR_DQ12, W20 DDR_DQ11, W21 DDR_DQM1, Y1 PA11, Y2 PF14, Y3 PA0, Y4 PA2, Y5 PA5, Y6 PF11, Y7 PC4, Y8 PB1, Y9 PC1, Y10 PG14, Y11 NRST, Y12 PF15, Y13 USB_DM2, Y14 VSS_USBHS, Y15 PI6, Y16 USB_DP1, Y17 PI4, Y18 VDD_PLL2, Y19 PH4, Y20 DDR_DQ15, Y21 DDR_DQ14

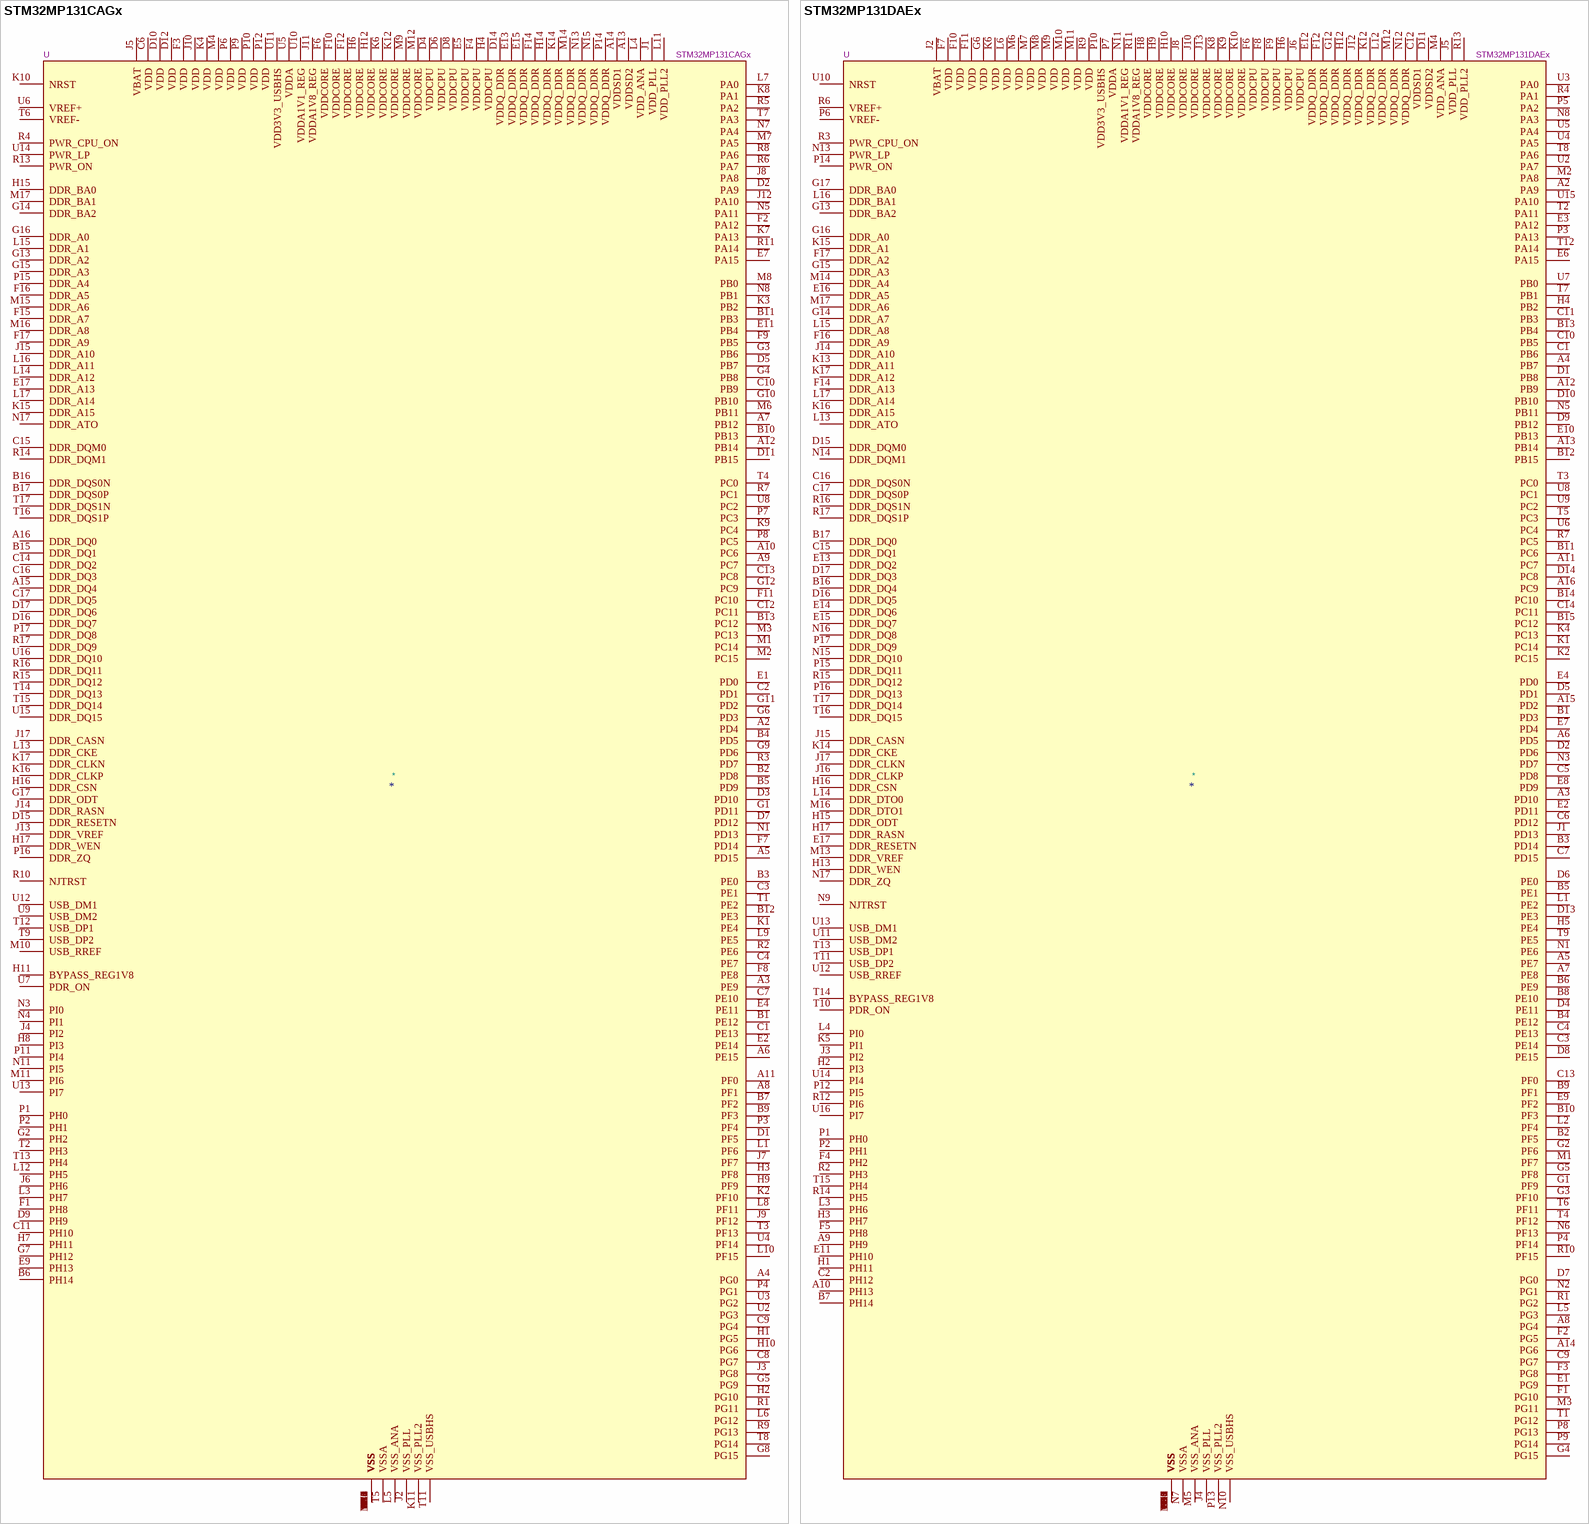
[diagram p4: symbols STM32MP131CAGx to STM32MP131DAEx]

## STM32MP131CAGx
designator *  value STM32MP131CAGx  Reference: U
STMicroelectronics Arm Cortex-A7 MCU, 0KB flash, 168KB RAM, 136 GPIO, TFBGA289; ki_keywords: Arm Cortex-A7 STM32MP1 STM32MP131; ki_fp_filters: TFBGA*9x9mm*Layout17x17*P0.5mm*; Footprint: Package_BGA:TFBGA-289_9x9mm_Layout17x17_P0.5mm; Datasheet: https://www.st.com/resource/en/datasheet/stm32mp131c.pdf; Description_: STMicroelectronics Arm Cortex-A7 MCU, 0KB flash, 168KB RAM, 136 GPIO, TFBGA289
pins: A1 VSS, A2 PD4, A3 PE9, A4 PG0, A5 PD15, A6 PE15, A7 PB12, A8 PF1, A9 PC7, A10 PC6, A11 PF0, A12 PB14, A13 VDDSD2, A14 VDDSD1, A15 DDR_DQ4, A16 DDR_DQ0, A17 VSS, B1 PE12, B2 PD8, B3 PE0, B4 PD5, B5 PD9, B6 PH14, B7 PF2, B8 VSS, B9 PF3, B10 PB13, B11 PB3, B12 PE3, B13 PC12, B14 VSS, B15 DDR_DQ1, B16 DDR_DQS0N, B17 DDR_DQS0P, C1 PE13, C2 PD1, C3 PE1, C4 PE7, C5 VSS, C6 VDD, C7 PE10, C8 PG7, C9 PG4, C10 PB9, C11 PH10, C12 PC11, C13 PC8, C14 DDR_DQ2, C15 DDR_DQM0, C16 DDR_DQ3, C17 DDR_DQ5, D1 PF5, D2 PA9, D3 PD10, D4 VDDCPU, D5 PB7, D6 VDDCPU, D7 PD12, D8 VDDCPU, D9 PH9, D10 VDD, D11 PB15, D12 VDD, D13 VSS, D14 VDDQ_DDR, D15 DDR_RESETN, D16 DDR_DQ7, D17 DDR_DQ6, E1 PD0, E2 PE14, E3 VSS, E4 PE11, E5 VDDCPU, E6 VSS, E7 PA15, E8 VSS, E9 PH13, E10 VSS, E11 PB4, E12 VSS, E13 VDDQ_DDR, E14 VSS, E15 VDDQ_DDR, E16 VSS, E17 DDR_A13, F1 PH8, F2 PA12, F3 VDD, F4 VDDCPU, F5 VSS, F6 VDDCORE, F7 PD14, F8 PE8, F9 PB5, F10 VDDCORE, F11 PC10, F12 VDDCORE, F13 VSS, F14 VDDQ_DDR, F15 DDR_A7, F16 DDR_A5, F17 DDR_A9, G1 PD11, G2 PH2, G3 PB6, G4 PB8, G5 PG9, G6 PD3, G7 PH12, G8 PG15, G9 PD6, G10 PB10, G11 PD2, G12 PC9, G13 DDR_A2, G14 DDR_BA2, G15 DDR_A3, G16 DDR_A0, G17 DDR_ODT, H1 PG5, H2 PG10, H3 PF8, H4 VDDCPU, H5 VSS, H6 VDDCORE, H7 PH11, H8 PI3, H9 PF9, H10 PG6, H11 BYPASS_REG1V8, H12 VDDCORE, H13 VSS, H14 VDDQ_DDR, H15 DDR_BA0, H16 DDR_CSN, H17 DDR_WEN, J1 VDD_PLL, J2 VSS_PLL, J3 PG8, J4 PI2, J5 VBAT, J6 PH6, J7 PF7, J8 PA8, J9 PF12, J10 VDD, J11 VDDA1V8_REG, J12 PA10, J13 DDR_VREF, J14 DDR_RASN, J15 DDR_A10, J16 VSS, J17 DDR_CASN, K1 PE4, K2 PF10, K3 PB2, K4 VDD, K5 VSS, K6 VDDCORE, K7 PA13, K8 PA1, K9 PC4, K10 NRST, K11 VSS_PLL2, K12 VDDCORE, K13 VSS, K14 VDDQ_DDR, K15 DDR_A15, K16 DDR_CLKP, K17 DDR_CLKN, L1 PF6, L2 VSS, L3 PH7, L4 VDD_ANA, L5 VSS_ANA, L6 PG12, L7 PA0, L8 PF11, L9 PE5, L10 PF15, L11 VDD_PLL2, L12 PH5, L13 DDR_CKE, L14 DDR_A12, L15 DDR_A1, L16 DDR_A11, L17 DDR_A14, M1 PC14, M2 PC15, M3 PC13, M4 VDD, M5 VSS, M6 PB11, M7 PA5, M8 PB0, M9 VDDCORE, M10 USB_RREF, M11 PI6, M12 VDDCORE, M13 VSS, M14 VDDQ_DDR, M15 DDR_A6, M16 DDR_A8, M17 DDR_BA1, N1 PD13, N2 VSS, N3 PI0, N4 PI1, N5 PA11, N6 VSS, N7 PA4, N8 PB1, N9 VSS, N10 VSS, N11 PI5, N12 VSS, N13 VDDQ_DDR, N14 VSS, N15 VDDQ_DDR, N16 VSS, N17 DDR_ATO, P1 PH0, P2 PH1, P3 PF4, P4 PG1, P5 VSS, P6 VDD, P7 PC3, P8 PC5, P9 VDD, P10 VDD, P11 PI4, P12 VDD, P13 VSS, P14 VDDQ_DDR, P15 DDR_A4, P16 DDR_ZQ, P17 DDR_DQ8, R1 PG11, R2 PE6, R3 PD7, R4 PWR_CPU_ON, R5 PA2, R6 PA7, R7 PC1, R8 PA6, R9 PG13, R10 NJTRST, R11 PA14, R12 VSS, R13 PWR_ON, R14 DDR_DQM1, R15 DDR_DQ12, R16 DDR_DQ11, R17 DDR_DQ9, T1 PE2, T2 PH3, T3 PF13, T4 PC0, T5 VSSA, T6 VREF-, T7 PA3, T8 PG14, T9 USB_DP2, T10 VSS, T11 VSS_USBHS, T12 USB_DP1, T13 PH4, T14 DDR_DQ13, T15 DDR_DQ14, T16 DDR_DQS1P, T17 DDR_DQS1N, U1 VSS, U2 PG3, U3 PG2, U4 PF14, U5 VDDA, U6 VREF+, U7 PDR_ON, U8 PC2, U9 USB_DM2, U10 VDDA1V1_REG, U11 VDD3V3_USBHS, U12 USB_DM1, U13 PI7, U14 PWR_LP, U15 DDR_DQ15, U16 DDR_DQ10, U17 VSS

## STM32MP131DAEx
designator *  value STM32MP131DAEx  Reference: U
STMicroelectronics Arm Cortex-A7 MCU, 0KB flash, 168KB RAM, 136 GPIO, LFBGA289; ki_keywords: Arm Cortex-A7 STM32MP1 STM32MP131; ki_fp_filters: LFBGA*14x14mm*Layout17x17*P0.8mm*; Footprint: Package_BGA:LFBGA-289_14x14mm_Layout17x17_P0.8mm; Datasheet: https://www.st.com/resource/en/datasheet/stm32mp131d.pdf; Description_: STMicroelectronics Arm Cortex-A7 MCU, 0KB flash, 168KB RAM, 136 GPIO, LFBGA289
pins: A1 VSS, A2 PA9, A3 PD10, A4 PB7, A5 PE7, A6 PD5, A7 PE8, A8 PG4, A9 PH9, A10 PH13, A11 PC7, A12 PB9, A13 PB14, A14 PG6, A15 PD2, A16 PC9, A17 VSS, B1 PD3, B2 PF5, B3 PD14, B4 PE12, B5 PE1, B6 PE9, B7 PH14, B8 PE10, B9 PF1, B10 PF3, B11 PC6, B12 PB15, B13 PB4, B14 PC10, B15 PC12, B16 DDR_DQ4, B17 DDR_DQ0, C1 PB6, C2 PH12, C3 PE14, C4 PE13, C5 PD8, C6 PD12, C7 PD15, C8 VSS, C9 PG7, C10 PB5, C11 PB3, C12 VDDSD1, C13 PF0, C14 PC11, C15 DDR_DQ1, C16 DDR_DQS0N, C17 DDR_DQS0P, D1 PB8, D2 PD6, D3 VSS, D4 PE11, D5 PD1, D6 PE0, D7 PG0, D8 PE15, D9 PB12, D10 PB10, D11 VDDSD2, D12 VSS, D13 PE3, D14 PC8, D15 DDR_DQM0, D16 DDR_DQ5, D17 DDR_DQ3, E1 PG9, E2 PD11, E3 PA12, E4 PD0, E5 VSS, E6 PA15, E7 PD4, E8 PD9, E9 PF2, E10 PB13, E11 PH10, E12 VDDQ_DDR, E13 DDR_DQ2, E14 DDR_DQ6, E15 DDR_DQ7, E16 DDR_A5, E17 DDR_RESETN, F1 PG10, F2 PG5, F3 PG8, F4 PH2, F5 PH8, F6 VDDCPU, F7 VDD, F8 VDDCPU, F9 VDDCPU, F10 VDD, F11 VDD, F12 VDDQ_DDR, F13 VSS, F14 DDR_A13, F15 VSS, F16 DDR_A9, F17 DDR_A2, G1 PF9, G2 PF6, G3 PF10, G4 PG15, G5 PF8, G6 VDD, G7 VSS, G8 VSS, G9 VSS, G10 VSS, G11 VSS, G12 VDDQ_DDR, G13 DDR_BA2, G14 DDR_A7, G15 DDR_A3, G16 DDR_A0, G17 DDR_BA0, H1 PH11, H2 PI3, H3 PH7, H4 PB2, H5 PE4, H6 VDDCPU, H7 VSS, H8 VDDCORE, H9 VDDCORE, H10 VDDCORE, H11 VSS, H12 VDDQ_DDR, H13 DDR_WEN, H14 VSS, H15 DDR_ODT, H16 DDR_CSN, H17 DDR_RASN, J1 PD13, J2 VBAT, J3 PI2, J4 VSS_PLL, J5 VDD_PLL, J6 VDDCPU, J7 VSS, J8 VDDCORE, J9 VSS, J10 VDDCORE, J11 VSS, J12 VDDQ_DDR, J13 VDDCORE, J14 DDR_A10, J15 DDR_CASN, J16 DDR_CLKP, J17 DDR_CLKN, K1 PC14, K2 PC15, K3 VSS, K4 PC13, K5 PI1, K6 VDD, K7 VSS, K8 VDDCORE, K9 VDDCORE, K10 VDDCORE, K11 VSS, K12 VDDQ_DDR, K13 DDR_A11, K14 DDR_CKE, K15 DDR_A1, K16 DDR_A15, K17 DDR_A12, L1 PE2, L2 PF4, L3 PH6, L4 PI0, L5 PG3, L6 VDD, L7 VSS, L8 VSS, L9 VSS, L10 VSS, L11 VSS, L12 VDDQ_DDR, L13 DDR_ATO, L14 DDR_DTO0, L15 DDR_A8, L16 DDR_BA1, L17 DDR_A14, M1 PF7, M2 PA8, M3 PG11, M4 VDD_ANA, M5 VSS_ANA, M6 VDD, M7 VDD, M8 VDD, M9 VDD, M10 VDD, M11 VDD, M12 VDDQ_DDR, M13 DDR_VREF, M14 DDR_A4, M15 VSS, M16 DDR_DTO1, M17 DDR_A6, N1 PE6, N2 PG1, N3 PD7, N4 VSS, N5 PB11, N6 PF13, N7 VSSA, N8 PA3, N9 NJTRST, N10 VSS_USBHS, N11 VDDA1V1_REG, N12 VDDQ_DDR, N13 PWR_LP, N14 DDR_DQM1, N15 DDR_DQ10, N16 DDR_DQ8, N17 DDR_ZQ, P1 PH0, P2 PH1, P3 PA13, P4 PF14, P5 PA2, P6 VREF-, P7 VDDA, P8 PG13, P9 PG14, P10 VDD3V3_USBHS, P11 VSS, P12 PI5, P13 VSS_PLL2, P14 PWR_ON, P15 DDR_DQ11, P16 DDR_DQ13, P17 DDR_DQ9, R1 PG2, R2 PH3, R3 PWR_CPU_ON, R4 PA1, R5 VSS, R6 VREF+, R7 PC5, R8 VSS, R9 VDD, R10 PF15, R11 VDDA1V8_REG, R12 PI6, R13 VDD_PLL2, R14 PH5, R15 DDR_DQ12, R16 DDR_DQS1N, R17 DDR_DQS1P, T1 PG12, T2 PA11, T3 PC0, T4 PF12, T5 PC3, T6 PF11, T7 PB1, T8 PA6, T9 PE5, T10 PDR_ON, T11 USB_DP2, T12 PA14, T13 USB_DP1, T14 BYPASS_REG1V8, T15 PH4, T16 DDR_DQ15, T17 DDR_DQ14, U1 VSS, U2 PA7, U3 PA0, U4 PA5, U5 PA4, U6 PC4, U7 PB0, U8 PC1, U9 PC2, U10 NRST, U11 USB_DM2, U12 USB_RREF, U13 USB_DM1, U14 PI4, U15 PA10, U16 PI7, U17 VSS

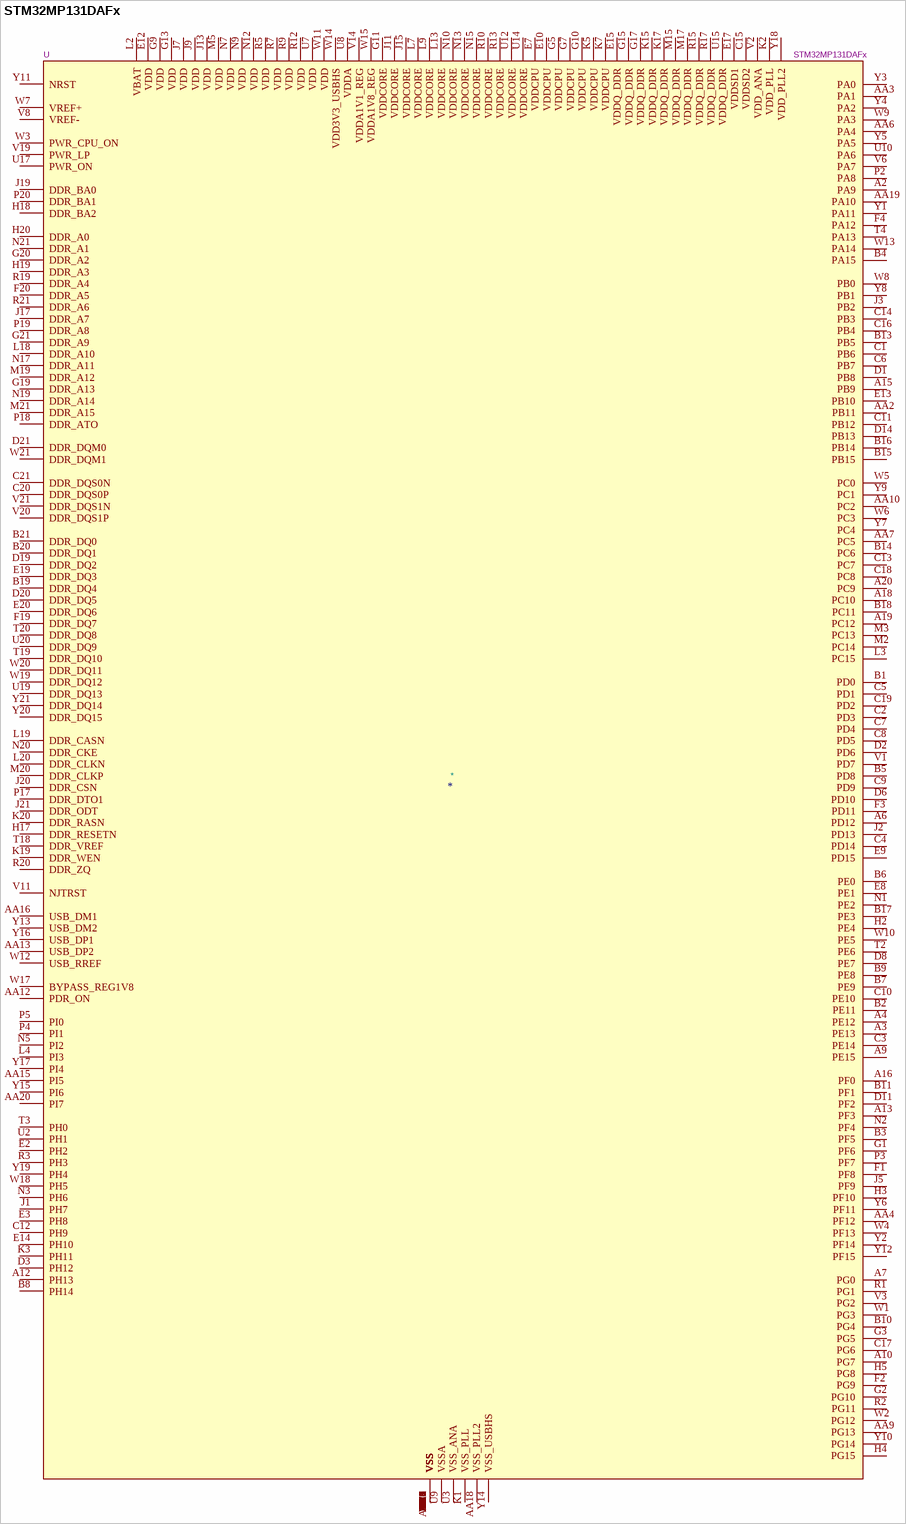
[diagram p5: symbol STM32MP131DAFx]

## STM32MP131DAFx
designator *  value STM32MP131DAFx  Reference: U
STMicroelectronics Arm Cortex-A7 MCU, 0KB flash, 168KB RAM, 136 GPIO, TFBGA320; ki_keywords: Arm Cortex-A7 STM32MP1 STM32MP131; ki_fp_filters: ST*TFBGA*11x11mm*Layout21x21*P0.5mm*; Footprint: Package_BGA:ST_TFBGA-320_11x11mm_Layout21x21_P0.5mm; Datasheet: https://www.st.com/resource/en/datasheet/stm32mp131d.pdf; Description_: STMicroelectronics Arm Cortex-A7 MCU, 0KB flash, 168KB RAM, 136 GPIO, TFBGA320
pins: A1 VSS, A2 PA9, A3 PE13, A4 PE12, A6 PD12, A7 PG0, A9 PE15, A10 PG7, A12 PH13, A13 PF3, A15 PB9, A16 PF0, A18 PC10, A19 PC12, A20 PC9, A21 VSS, AA1 VSS, AA2 PB11, AA3 PA1, AA4 PF12, AA6 PA4, AA7 PC5, AA9 PG13, AA10 PC2, AA12 PDR_ON, AA13 USB_DP2, AA15 PI5, AA16 USB_DM1, AA18 VSS_PLL2, AA19 PA10, AA20 PI7, AA21 VSS, B1 PD0, B2 PE11, B3 PF5, B4 PA15, B5 PD8, B6 PE0, B7 PE9, B8 PH14, B9 PE8, B10 PG4, B11 PF1, B12 VSS, B13 PB5, B14 PC6, B15 PB15, B16 PB14, B17 PE3, B18 PC11, B19 DDR_DQ4, B20 DDR_DQ1, B21 DDR_DQ0, C1 PB6, C2 PD3, C3 PE14, C4 PD14, C5 PD1, C6 PB7, C7 PD4, C8 PD5, C9 PD9, C10 PE10, C11 PB12, C12 PH9, C13 PC7, C14 PB3, C15 VDDSD2, C16 PB4, C17 PG6, C18 PC8, C19 PD2, C20 DDR_DQS0P, C21 DDR_DQS0N, D1 PB8, D2 PD6, D3 PH12, D6 PD10, D8 PE7, D11 PF2, D14 PB13, D16 VSS, D19 DDR_DQ2, D20 DDR_DQ5, D21 DDR_DQM0, E2 PH2, E3 PH8, E5 VSS, E6 VSS, E7 VDDCPU, E8 PE1, E9 PD15, E10 VDDCPU, E11 VSS, E12 VDD, E13 PB10, E14 PH10, E15 VDDQ_DDR, E16 VSS, E17 VDDSD1, E19 DDR_DQ3, E20 DDR_DQ6, F1 PF8, F2 PG9, F3 PD11, F4 PA12, F5 VSS, F17 VSS, F18 VSS, F19 DDR_DQ7, F20 DDR_A5, F21 VSS, G1 PF6, G2 PG10, G3 PG5, G5 VDDCPU, G7 VDDCPU, G8 VSS, G9 VDD, G10 VDDCPU, G11 VDDCORE, G12 VSS, G13 VDD, G14 VSS, G15 VDDQ_DDR, G17 VDDQ_DDR, G19 DDR_A13, G20 DDR_A2, G21 DDR_A9, H2 PE4, H3 PF10, H4 PG15, H5 PG8, H7 VSS, H15 VSS, H17 DDR_RESETN, H18 DDR_BA2, H19 DDR_A3, H20 DDR_A0, J1 PH7, J2 PD13, J3 PB2, J5 PF9, J7 VDD, J9 VDD, J10 VSS, J11 VDDCORE, J12 VSS, J13 VDD, J15 VDDCORE, J17 DDR_A7, J19 DDR_BA0, J20 DDR_CSN, J21 DDR_ODT, K1 VSS_PLL, K2 VDD_PLL, K3 PH11, K5 VDDCPU, K7 VDDCPU, K9 VSS, K10 VSS, K11 VSS, K12 VSS, K13 VSS, K15 VDDQ_DDR, K17 VDDQ_DDR, K19 DDR_WEN, K20 DDR_RASN, K21 VSS, L2 VBAT, L3 PC15, L4 PI3, L5 VSS, L7 VDDCORE, L9 VDDCORE, L10 VSS, L12 VSS, L13 VDDCORE, L15 VSS, L17 VSS, L18 DDR_A10, L19 DDR_CASN, L20 DDR_CLKN, M1 VSS, M2 PC14, M3 PC13, M5 VDD, M7 VSS, M9 VSS, M10 VSS, M11 VSS, M12 VSS, M13 VSS, M15 VDDQ_DDR, M17 VDDQ_DDR, M19 DDR_A12, M20 DDR_CLKP, M21 DDR_A15, N1 PE2, N2 PF4, N3 PH6, N5 PI2, N7 VDD, N9 VDD, N10 VDDCORE, N11 VSS, N12 VDD, N13 VDDCORE, N15 VDDCORE, N17 DDR_A11, N19 DDR_A14, N20 DDR_CKE, N21 DDR_A1, P2 PA8, P3 PF7, P4 PI1, P5 PI0, P7 VSS, P15 VSS, P17 DDR_DTO1, P18 DDR_ATO, P19 DDR_A8, P20 DDR_BA1, R1 PG1, R2 PG11, R3 PH3, R5 VDD, R7 VDD, R8 VSS, R9 VDD, R10 VDDCORE, R11 VSS, R12 VDD, R13 VDDCORE, R14 VSS, R15 VDDQ_DDR, R17 VDDQ_DDR, R19 DDR_A4, R20 DDR_ZQ, R21 DDR_A6, T1 VSS, T2 PE6, T3 PH0, T4 PA13, T5 VSS, T17 VSS, T18 DDR_VREF, T19 DDR_DQ10, T20 DDR_DQ8, T21 VSS, U2 PH1, U3 VSS_ANA, U5 VSS, U6 VSS, U7 VDD, U8 VDDA, U9 VSSA, U10 PA6, U11 VSS, U12 VDDCORE, U13 VSS, U14 VDDCORE, U15 VDDQ_DDR, U16 VSS, U17 PWR_ON, U19 DDR_DQ13, U20 DDR_DQ9, V1 PD7, V2 VDD_ANA, V3 PG2, V6 PA7, V8 VREF-, V11 NJTRST, V14 VDDA1V1_REG, V16 VSS, V19 PWR_LP, V20 DDR_DQS1P, V21 DDR_DQS1N, W1 PG3, W2 PG12, W3 PWR_CPU_ON, W4 PF13, W5 PC0, W6 PC3, W7 VREF+, W8 PB0, W9 PA3, W10 PE5, W11 VDD, W12 USB_RREF, W13 PA14, W14 VDD3V3_USBHS, W15 VDDA1V8_REG, W16 VSS, W17 BYPASS_REG1V8, W18 PH5, W19 DDR_DQ12, W20 DDR_DQ11, W21 DDR_DQM1, Y1 PA11, Y2 PF14, Y3 PA0, Y4 PA2, Y5 PA5, Y6 PF11, Y7 PC4, Y8 PB1, Y9 PC1, Y10 PG14, Y11 NRST, Y12 PF15, Y13 USB_DM2, Y14 VSS_USBHS, Y15 PI6, Y16 USB_DP1, Y17 PI4, Y18 VDD_PLL2, Y19 PH4, Y20 DDR_DQ15, Y21 DDR_DQ14

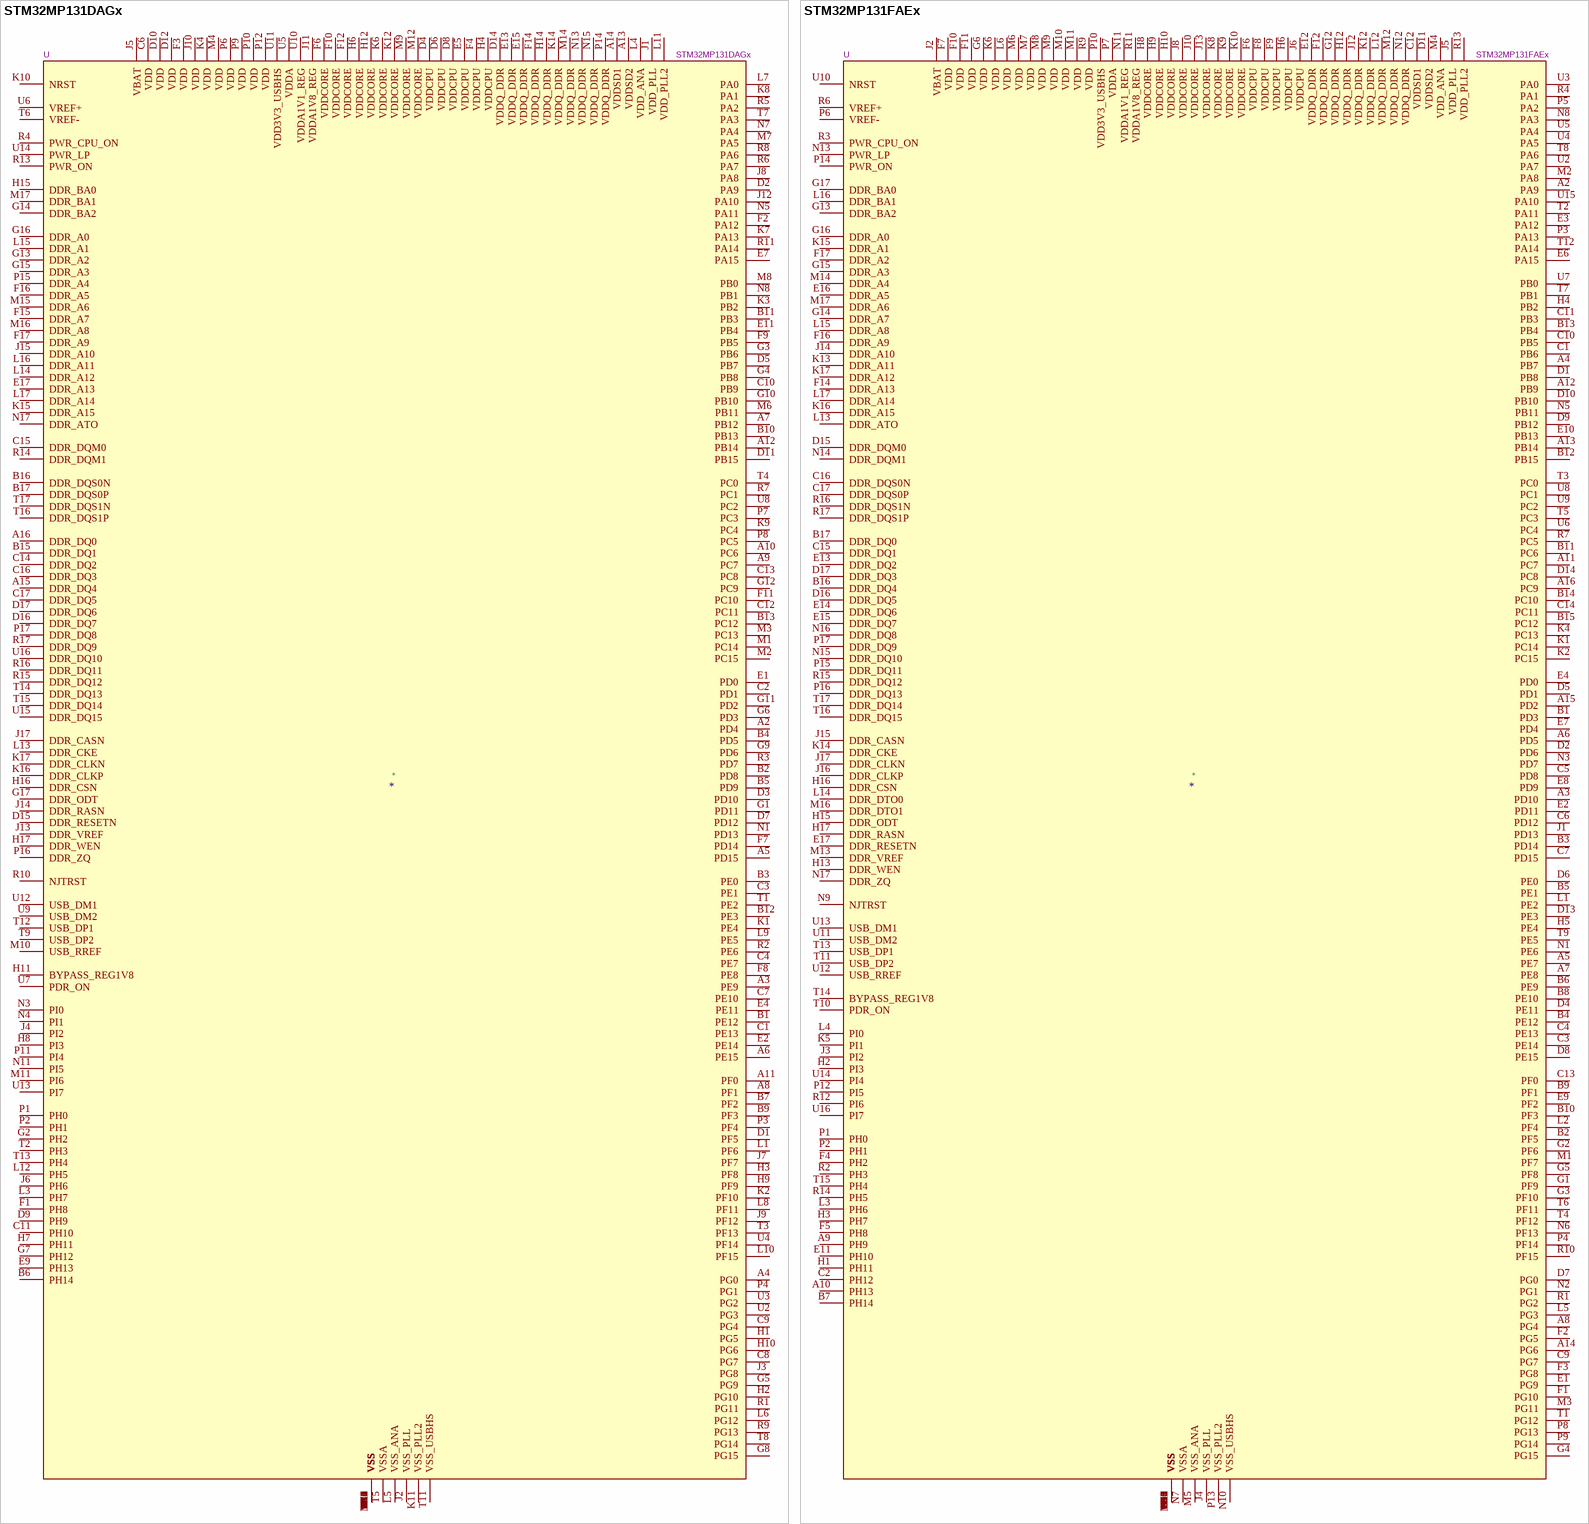
[diagram p6: symbols STM32MP131DAGx to STM32MP131FAEx]

## STM32MP131DAGx
designator *  value STM32MP131DAGx  Reference: U
STMicroelectronics Arm Cortex-A7 MCU, 0KB flash, 168KB RAM, 136 GPIO, TFBGA289; ki_keywords: Arm Cortex-A7 STM32MP1 STM32MP131; ki_fp_filters: TFBGA*9x9mm*Layout17x17*P0.5mm*; Footprint: Package_BGA:TFBGA-289_9x9mm_Layout17x17_P0.5mm; Datasheet: https://www.st.com/resource/en/datasheet/stm32mp131d.pdf; Description_: STMicroelectronics Arm Cortex-A7 MCU, 0KB flash, 168KB RAM, 136 GPIO, TFBGA289
pins: A1 VSS, A2 PD4, A3 PE9, A4 PG0, A5 PD15, A6 PE15, A7 PB12, A8 PF1, A9 PC7, A10 PC6, A11 PF0, A12 PB14, A13 VDDSD2, A14 VDDSD1, A15 DDR_DQ4, A16 DDR_DQ0, A17 VSS, B1 PE12, B2 PD8, B3 PE0, B4 PD5, B5 PD9, B6 PH14, B7 PF2, B8 VSS, B9 PF3, B10 PB13, B11 PB3, B12 PE3, B13 PC12, B14 VSS, B15 DDR_DQ1, B16 DDR_DQS0N, B17 DDR_DQS0P, C1 PE13, C2 PD1, C3 PE1, C4 PE7, C5 VSS, C6 VDD, C7 PE10, C8 PG7, C9 PG4, C10 PB9, C11 PH10, C12 PC11, C13 PC8, C14 DDR_DQ2, C15 DDR_DQM0, C16 DDR_DQ3, C17 DDR_DQ5, D1 PF5, D2 PA9, D3 PD10, D4 VDDCPU, D5 PB7, D6 VDDCPU, D7 PD12, D8 VDDCPU, D9 PH9, D10 VDD, D11 PB15, D12 VDD, D13 VSS, D14 VDDQ_DDR, D15 DDR_RESETN, D16 DDR_DQ7, D17 DDR_DQ6, E1 PD0, E2 PE14, E3 VSS, E4 PE11, E5 VDDCPU, E6 VSS, E7 PA15, E8 VSS, E9 PH13, E10 VSS, E11 PB4, E12 VSS, E13 VDDQ_DDR, E14 VSS, E15 VDDQ_DDR, E16 VSS, E17 DDR_A13, F1 PH8, F2 PA12, F3 VDD, F4 VDDCPU, F5 VSS, F6 VDDCORE, F7 PD14, F8 PE8, F9 PB5, F10 VDDCORE, F11 PC10, F12 VDDCORE, F13 VSS, F14 VDDQ_DDR, F15 DDR_A7, F16 DDR_A5, F17 DDR_A9, G1 PD11, G2 PH2, G3 PB6, G4 PB8, G5 PG9, G6 PD3, G7 PH12, G8 PG15, G9 PD6, G10 PB10, G11 PD2, G12 PC9, G13 DDR_A2, G14 DDR_BA2, G15 DDR_A3, G16 DDR_A0, G17 DDR_ODT, H1 PG5, H2 PG10, H3 PF8, H4 VDDCPU, H5 VSS, H6 VDDCORE, H7 PH11, H8 PI3, H9 PF9, H10 PG6, H11 BYPASS_REG1V8, H12 VDDCORE, H13 VSS, H14 VDDQ_DDR, H15 DDR_BA0, H16 DDR_CSN, H17 DDR_WEN, J1 VDD_PLL, J2 VSS_PLL, J3 PG8, J4 PI2, J5 VBAT, J6 PH6, J7 PF7, J8 PA8, J9 PF12, J10 VDD, J11 VDDA1V8_REG, J12 PA10, J13 DDR_VREF, J14 DDR_RASN, J15 DDR_A10, J16 VSS, J17 DDR_CASN, K1 PE4, K2 PF10, K3 PB2, K4 VDD, K5 VSS, K6 VDDCORE, K7 PA13, K8 PA1, K9 PC4, K10 NRST, K11 VSS_PLL2, K12 VDDCORE, K13 VSS, K14 VDDQ_DDR, K15 DDR_A15, K16 DDR_CLKP, K17 DDR_CLKN, L1 PF6, L2 VSS, L3 PH7, L4 VDD_ANA, L5 VSS_ANA, L6 PG12, L7 PA0, L8 PF11, L9 PE5, L10 PF15, L11 VDD_PLL2, L12 PH5, L13 DDR_CKE, L14 DDR_A12, L15 DDR_A1, L16 DDR_A11, L17 DDR_A14, M1 PC14, M2 PC15, M3 PC13, M4 VDD, M5 VSS, M6 PB11, M7 PA5, M8 PB0, M9 VDDCORE, M10 USB_RREF, M11 PI6, M12 VDDCORE, M13 VSS, M14 VDDQ_DDR, M15 DDR_A6, M16 DDR_A8, M17 DDR_BA1, N1 PD13, N2 VSS, N3 PI0, N4 PI1, N5 PA11, N6 VSS, N7 PA4, N8 PB1, N9 VSS, N10 VSS, N11 PI5, N12 VSS, N13 VDDQ_DDR, N14 VSS, N15 VDDQ_DDR, N16 VSS, N17 DDR_ATO, P1 PH0, P2 PH1, P3 PF4, P4 PG1, P5 VSS, P6 VDD, P7 PC3, P8 PC5, P9 VDD, P10 VDD, P11 PI4, P12 VDD, P13 VSS, P14 VDDQ_DDR, P15 DDR_A4, P16 DDR_ZQ, P17 DDR_DQ8, R1 PG11, R2 PE6, R3 PD7, R4 PWR_CPU_ON, R5 PA2, R6 PA7, R7 PC1, R8 PA6, R9 PG13, R10 NJTRST, R11 PA14, R12 VSS, R13 PWR_ON, R14 DDR_DQM1, R15 DDR_DQ12, R16 DDR_DQ11, R17 DDR_DQ9, T1 PE2, T2 PH3, T3 PF13, T4 PC0, T5 VSSA, T6 VREF-, T7 PA3, T8 PG14, T9 USB_DP2, T10 VSS, T11 VSS_USBHS, T12 USB_DP1, T13 PH4, T14 DDR_DQ13, T15 DDR_DQ14, T16 DDR_DQS1P, T17 DDR_DQS1N, U1 VSS, U2 PG3, U3 PG2, U4 PF14, U5 VDDA, U6 VREF+, U7 PDR_ON, U8 PC2, U9 USB_DM2, U10 VDDA1V1_REG, U11 VDD3V3_USBHS, U12 USB_DM1, U13 PI7, U14 PWR_LP, U15 DDR_DQ15, U16 DDR_DQ10, U17 VSS

## STM32MP131FAEx
designator *  value STM32MP131FAEx  Reference: U
STMicroelectronics Arm Cortex-A7 MCU, 0KB flash, 168KB RAM, 136 GPIO, LFBGA289; ki_keywords: Arm Cortex-A7 STM32MP1 STM32MP131; ki_fp_filters: LFBGA*14x14mm*Layout17x17*P0.8mm*; Footprint: Package_BGA:LFBGA-289_14x14mm_Layout17x17_P0.8mm; Datasheet: https://www.st.com/resource/en/datasheet/stm32mp131f.pdf; Description_: STMicroelectronics Arm Cortex-A7 MCU, 0KB flash, 168KB RAM, 136 GPIO, LFBGA289
pins: A1 VSS, A2 PA9, A3 PD10, A4 PB7, A5 PE7, A6 PD5, A7 PE8, A8 PG4, A9 PH9, A10 PH13, A11 PC7, A12 PB9, A13 PB14, A14 PG6, A15 PD2, A16 PC9, A17 VSS, B1 PD3, B2 PF5, B3 PD14, B4 PE12, B5 PE1, B6 PE9, B7 PH14, B8 PE10, B9 PF1, B10 PF3, B11 PC6, B12 PB15, B13 PB4, B14 PC10, B15 PC12, B16 DDR_DQ4, B17 DDR_DQ0, C1 PB6, C2 PH12, C3 PE14, C4 PE13, C5 PD8, C6 PD12, C7 PD15, C8 VSS, C9 PG7, C10 PB5, C11 PB3, C12 VDDSD1, C13 PF0, C14 PC11, C15 DDR_DQ1, C16 DDR_DQS0N, C17 DDR_DQS0P, D1 PB8, D2 PD6, D3 VSS, D4 PE11, D5 PD1, D6 PE0, D7 PG0, D8 PE15, D9 PB12, D10 PB10, D11 VDDSD2, D12 VSS, D13 PE3, D14 PC8, D15 DDR_DQM0, D16 DDR_DQ5, D17 DDR_DQ3, E1 PG9, E2 PD11, E3 PA12, E4 PD0, E5 VSS, E6 PA15, E7 PD4, E8 PD9, E9 PF2, E10 PB13, E11 PH10, E12 VDDQ_DDR, E13 DDR_DQ2, E14 DDR_DQ6, E15 DDR_DQ7, E16 DDR_A5, E17 DDR_RESETN, F1 PG10, F2 PG5, F3 PG8, F4 PH2, F5 PH8, F6 VDDCPU, F7 VDD, F8 VDDCPU, F9 VDDCPU, F10 VDD, F11 VDD, F12 VDDQ_DDR, F13 VSS, F14 DDR_A13, F15 VSS, F16 DDR_A9, F17 DDR_A2, G1 PF9, G2 PF6, G3 PF10, G4 PG15, G5 PF8, G6 VDD, G7 VSS, G8 VSS, G9 VSS, G10 VSS, G11 VSS, G12 VDDQ_DDR, G13 DDR_BA2, G14 DDR_A7, G15 DDR_A3, G16 DDR_A0, G17 DDR_BA0, H1 PH11, H2 PI3, H3 PH7, H4 PB2, H5 PE4, H6 VDDCPU, H7 VSS, H8 VDDCORE, H9 VDDCORE, H10 VDDCORE, H11 VSS, H12 VDDQ_DDR, H13 DDR_WEN, H14 VSS, H15 DDR_ODT, H16 DDR_CSN, H17 DDR_RASN, J1 PD13, J2 VBAT, J3 PI2, J4 VSS_PLL, J5 VDD_PLL, J6 VDDCPU, J7 VSS, J8 VDDCORE, J9 VSS, J10 VDDCORE, J11 VSS, J12 VDDQ_DDR, J13 VDDCORE, J14 DDR_A10, J15 DDR_CASN, J16 DDR_CLKP, J17 DDR_CLKN, K1 PC14, K2 PC15, K3 VSS, K4 PC13, K5 PI1, K6 VDD, K7 VSS, K8 VDDCORE, K9 VDDCORE, K10 VDDCORE, K11 VSS, K12 VDDQ_DDR, K13 DDR_A11, K14 DDR_CKE, K15 DDR_A1, K16 DDR_A15, K17 DDR_A12, L1 PE2, L2 PF4, L3 PH6, L4 PI0, L5 PG3, L6 VDD, L7 VSS, L8 VSS, L9 VSS, L10 VSS, L11 VSS, L12 VDDQ_DDR, L13 DDR_ATO, L14 DDR_DTO0, L15 DDR_A8, L16 DDR_BA1, L17 DDR_A14, M1 PF7, M2 PA8, M3 PG11, M4 VDD_ANA, M5 VSS_ANA, M6 VDD, M7 VDD, M8 VDD, M9 VDD, M10 VDD, M11 VDD, M12 VDDQ_DDR, M13 DDR_VREF, M14 DDR_A4, M15 VSS, M16 DDR_DTO1, M17 DDR_A6, N1 PE6, N2 PG1, N3 PD7, N4 VSS, N5 PB11, N6 PF13, N7 VSSA, N8 PA3, N9 NJTRST, N10 VSS_USBHS, N11 VDDA1V1_REG, N12 VDDQ_DDR, N13 PWR_LP, N14 DDR_DQM1, N15 DDR_DQ10, N16 DDR_DQ8, N17 DDR_ZQ, P1 PH0, P2 PH1, P3 PA13, P4 PF14, P5 PA2, P6 VREF-, P7 VDDA, P8 PG13, P9 PG14, P10 VDD3V3_USBHS, P11 VSS, P12 PI5, P13 VSS_PLL2, P14 PWR_ON, P15 DDR_DQ11, P16 DDR_DQ13, P17 DDR_DQ9, R1 PG2, R2 PH3, R3 PWR_CPU_ON, R4 PA1, R5 VSS, R6 VREF+, R7 PC5, R8 VSS, R9 VDD, R10 PF15, R11 VDDA1V8_REG, R12 PI6, R13 VDD_PLL2, R14 PH5, R15 DDR_DQ12, R16 DDR_DQS1N, R17 DDR_DQS1P, T1 PG12, T2 PA11, T3 PC0, T4 PF12, T5 PC3, T6 PF11, T7 PB1, T8 PA6, T9 PE5, T10 PDR_ON, T11 USB_DP2, T12 PA14, T13 USB_DP1, T14 BYPASS_REG1V8, T15 PH4, T16 DDR_DQ15, T17 DDR_DQ14, U1 VSS, U2 PA7, U3 PA0, U4 PA5, U5 PA4, U6 PC4, U7 PB0, U8 PC1, U9 PC2, U10 NRST, U11 USB_DM2, U12 USB_RREF, U13 USB_DM1, U14 PI4, U15 PA10, U16 PI7, U17 VSS

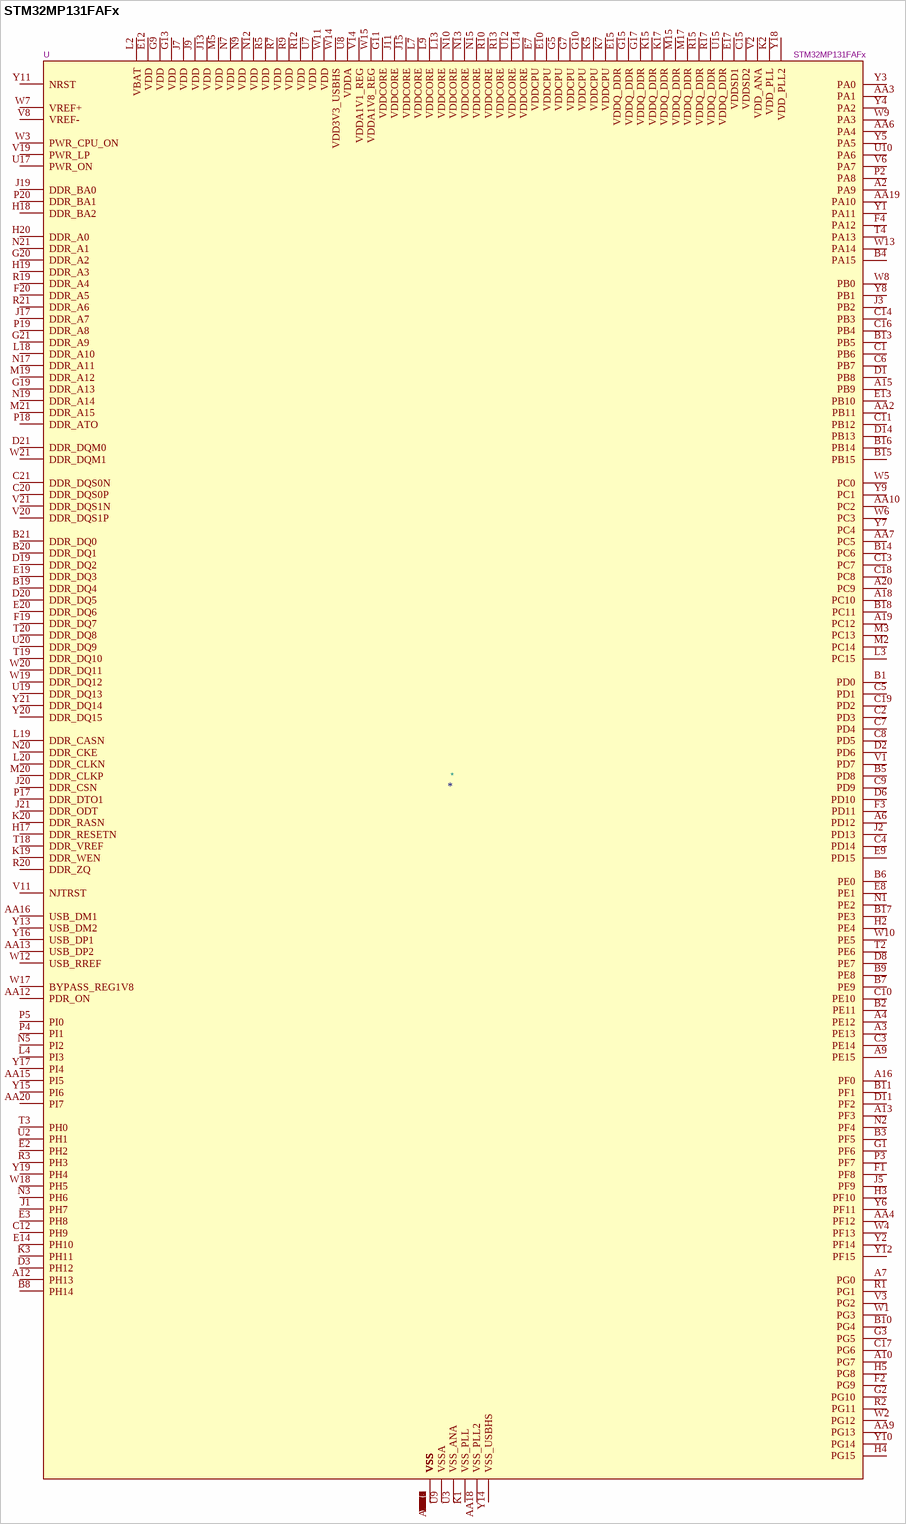
[diagram p7: symbol STM32MP131FAFx]

## STM32MP131FAFx
designator *  value STM32MP131FAFx  Reference: U
STMicroelectronics Arm Cortex-A7 MCU, 0KB flash, 168KB RAM, 136 GPIO, TFBGA320; ki_keywords: Arm Cortex-A7 STM32MP1 STM32MP131; ki_fp_filters: ST*TFBGA*11x11mm*Layout21x21*P0.5mm*; Footprint: Package_BGA:ST_TFBGA-320_11x11mm_Layout21x21_P0.5mm; Datasheet: https://www.st.com/resource/en/datasheet/stm32mp131f.pdf; Description_: STMicroelectronics Arm Cortex-A7 MCU, 0KB flash, 168KB RAM, 136 GPIO, TFBGA320
pins: A1 VSS, A2 PA9, A3 PE13, A4 PE12, A6 PD12, A7 PG0, A9 PE15, A10 PG7, A12 PH13, A13 PF3, A15 PB9, A16 PF0, A18 PC10, A19 PC12, A20 PC9, A21 VSS, AA1 VSS, AA2 PB11, AA3 PA1, AA4 PF12, AA6 PA4, AA7 PC5, AA9 PG13, AA10 PC2, AA12 PDR_ON, AA13 USB_DP2, AA15 PI5, AA16 USB_DM1, AA18 VSS_PLL2, AA19 PA10, AA20 PI7, AA21 VSS, B1 PD0, B2 PE11, B3 PF5, B4 PA15, B5 PD8, B6 PE0, B7 PE9, B8 PH14, B9 PE8, B10 PG4, B11 PF1, B12 VSS, B13 PB5, B14 PC6, B15 PB15, B16 PB14, B17 PE3, B18 PC11, B19 DDR_DQ4, B20 DDR_DQ1, B21 DDR_DQ0, C1 PB6, C2 PD3, C3 PE14, C4 PD14, C5 PD1, C6 PB7, C7 PD4, C8 PD5, C9 PD9, C10 PE10, C11 PB12, C12 PH9, C13 PC7, C14 PB3, C15 VDDSD2, C16 PB4, C17 PG6, C18 PC8, C19 PD2, C20 DDR_DQS0P, C21 DDR_DQS0N, D1 PB8, D2 PD6, D3 PH12, D6 PD10, D8 PE7, D11 PF2, D14 PB13, D16 VSS, D19 DDR_DQ2, D20 DDR_DQ5, D21 DDR_DQM0, E2 PH2, E3 PH8, E5 VSS, E6 VSS, E7 VDDCPU, E8 PE1, E9 PD15, E10 VDDCPU, E11 VSS, E12 VDD, E13 PB10, E14 PH10, E15 VDDQ_DDR, E16 VSS, E17 VDDSD1, E19 DDR_DQ3, E20 DDR_DQ6, F1 PF8, F2 PG9, F3 PD11, F4 PA12, F5 VSS, F17 VSS, F18 VSS, F19 DDR_DQ7, F20 DDR_A5, F21 VSS, G1 PF6, G2 PG10, G3 PG5, G5 VDDCPU, G7 VDDCPU, G8 VSS, G9 VDD, G10 VDDCPU, G11 VDDCORE, G12 VSS, G13 VDD, G14 VSS, G15 VDDQ_DDR, G17 VDDQ_DDR, G19 DDR_A13, G20 DDR_A2, G21 DDR_A9, H2 PE4, H3 PF10, H4 PG15, H5 PG8, H7 VSS, H15 VSS, H17 DDR_RESETN, H18 DDR_BA2, H19 DDR_A3, H20 DDR_A0, J1 PH7, J2 PD13, J3 PB2, J5 PF9, J7 VDD, J9 VDD, J10 VSS, J11 VDDCORE, J12 VSS, J13 VDD, J15 VDDCORE, J17 DDR_A7, J19 DDR_BA0, J20 DDR_CSN, J21 DDR_ODT, K1 VSS_PLL, K2 VDD_PLL, K3 PH11, K5 VDDCPU, K7 VDDCPU, K9 VSS, K10 VSS, K11 VSS, K12 VSS, K13 VSS, K15 VDDQ_DDR, K17 VDDQ_DDR, K19 DDR_WEN, K20 DDR_RASN, K21 VSS, L2 VBAT, L3 PC15, L4 PI3, L5 VSS, L7 VDDCORE, L9 VDDCORE, L10 VSS, L12 VSS, L13 VDDCORE, L15 VSS, L17 VSS, L18 DDR_A10, L19 DDR_CASN, L20 DDR_CLKN, M1 VSS, M2 PC14, M3 PC13, M5 VDD, M7 VSS, M9 VSS, M10 VSS, M11 VSS, M12 VSS, M13 VSS, M15 VDDQ_DDR, M17 VDDQ_DDR, M19 DDR_A12, M20 DDR_CLKP, M21 DDR_A15, N1 PE2, N2 PF4, N3 PH6, N5 PI2, N7 VDD, N9 VDD, N10 VDDCORE, N11 VSS, N12 VDD, N13 VDDCORE, N15 VDDCORE, N17 DDR_A11, N19 DDR_A14, N20 DDR_CKE, N21 DDR_A1, P2 PA8, P3 PF7, P4 PI1, P5 PI0, P7 VSS, P15 VSS, P17 DDR_DTO1, P18 DDR_ATO, P19 DDR_A8, P20 DDR_BA1, R1 PG1, R2 PG11, R3 PH3, R5 VDD, R7 VDD, R8 VSS, R9 VDD, R10 VDDCORE, R11 VSS, R12 VDD, R13 VDDCORE, R14 VSS, R15 VDDQ_DDR, R17 VDDQ_DDR, R19 DDR_A4, R20 DDR_ZQ, R21 DDR_A6, T1 VSS, T2 PE6, T3 PH0, T4 PA13, T5 VSS, T17 VSS, T18 DDR_VREF, T19 DDR_DQ10, T20 DDR_DQ8, T21 VSS, U2 PH1, U3 VSS_ANA, U5 VSS, U6 VSS, U7 VDD, U8 VDDA, U9 VSSA, U10 PA6, U11 VSS, U12 VDDCORE, U13 VSS, U14 VDDCORE, U15 VDDQ_DDR, U16 VSS, U17 PWR_ON, U19 DDR_DQ13, U20 DDR_DQ9, V1 PD7, V2 VDD_ANA, V3 PG2, V6 PA7, V8 VREF-, V11 NJTRST, V14 VDDA1V1_REG, V16 VSS, V19 PWR_LP, V20 DDR_DQS1P, V21 DDR_DQS1N, W1 PG3, W2 PG12, W3 PWR_CPU_ON, W4 PF13, W5 PC0, W6 PC3, W7 VREF+, W8 PB0, W9 PA3, W10 PE5, W11 VDD, W12 USB_RREF, W13 PA14, W14 VDD3V3_USBHS, W15 VDDA1V8_REG, W16 VSS, W17 BYPASS_REG1V8, W18 PH5, W19 DDR_DQ12, W20 DDR_DQ11, W21 DDR_DQM1, Y1 PA11, Y2 PF14, Y3 PA0, Y4 PA2, Y5 PA5, Y6 PF11, Y7 PC4, Y8 PB1, Y9 PC1, Y10 PG14, Y11 NRST, Y12 PF15, Y13 USB_DM2, Y14 VSS_USBHS, Y15 PI6, Y16 USB_DP1, Y17 PI4, Y18 VDD_PLL2, Y19 PH4, Y20 DDR_DQ15, Y21 DDR_DQ14

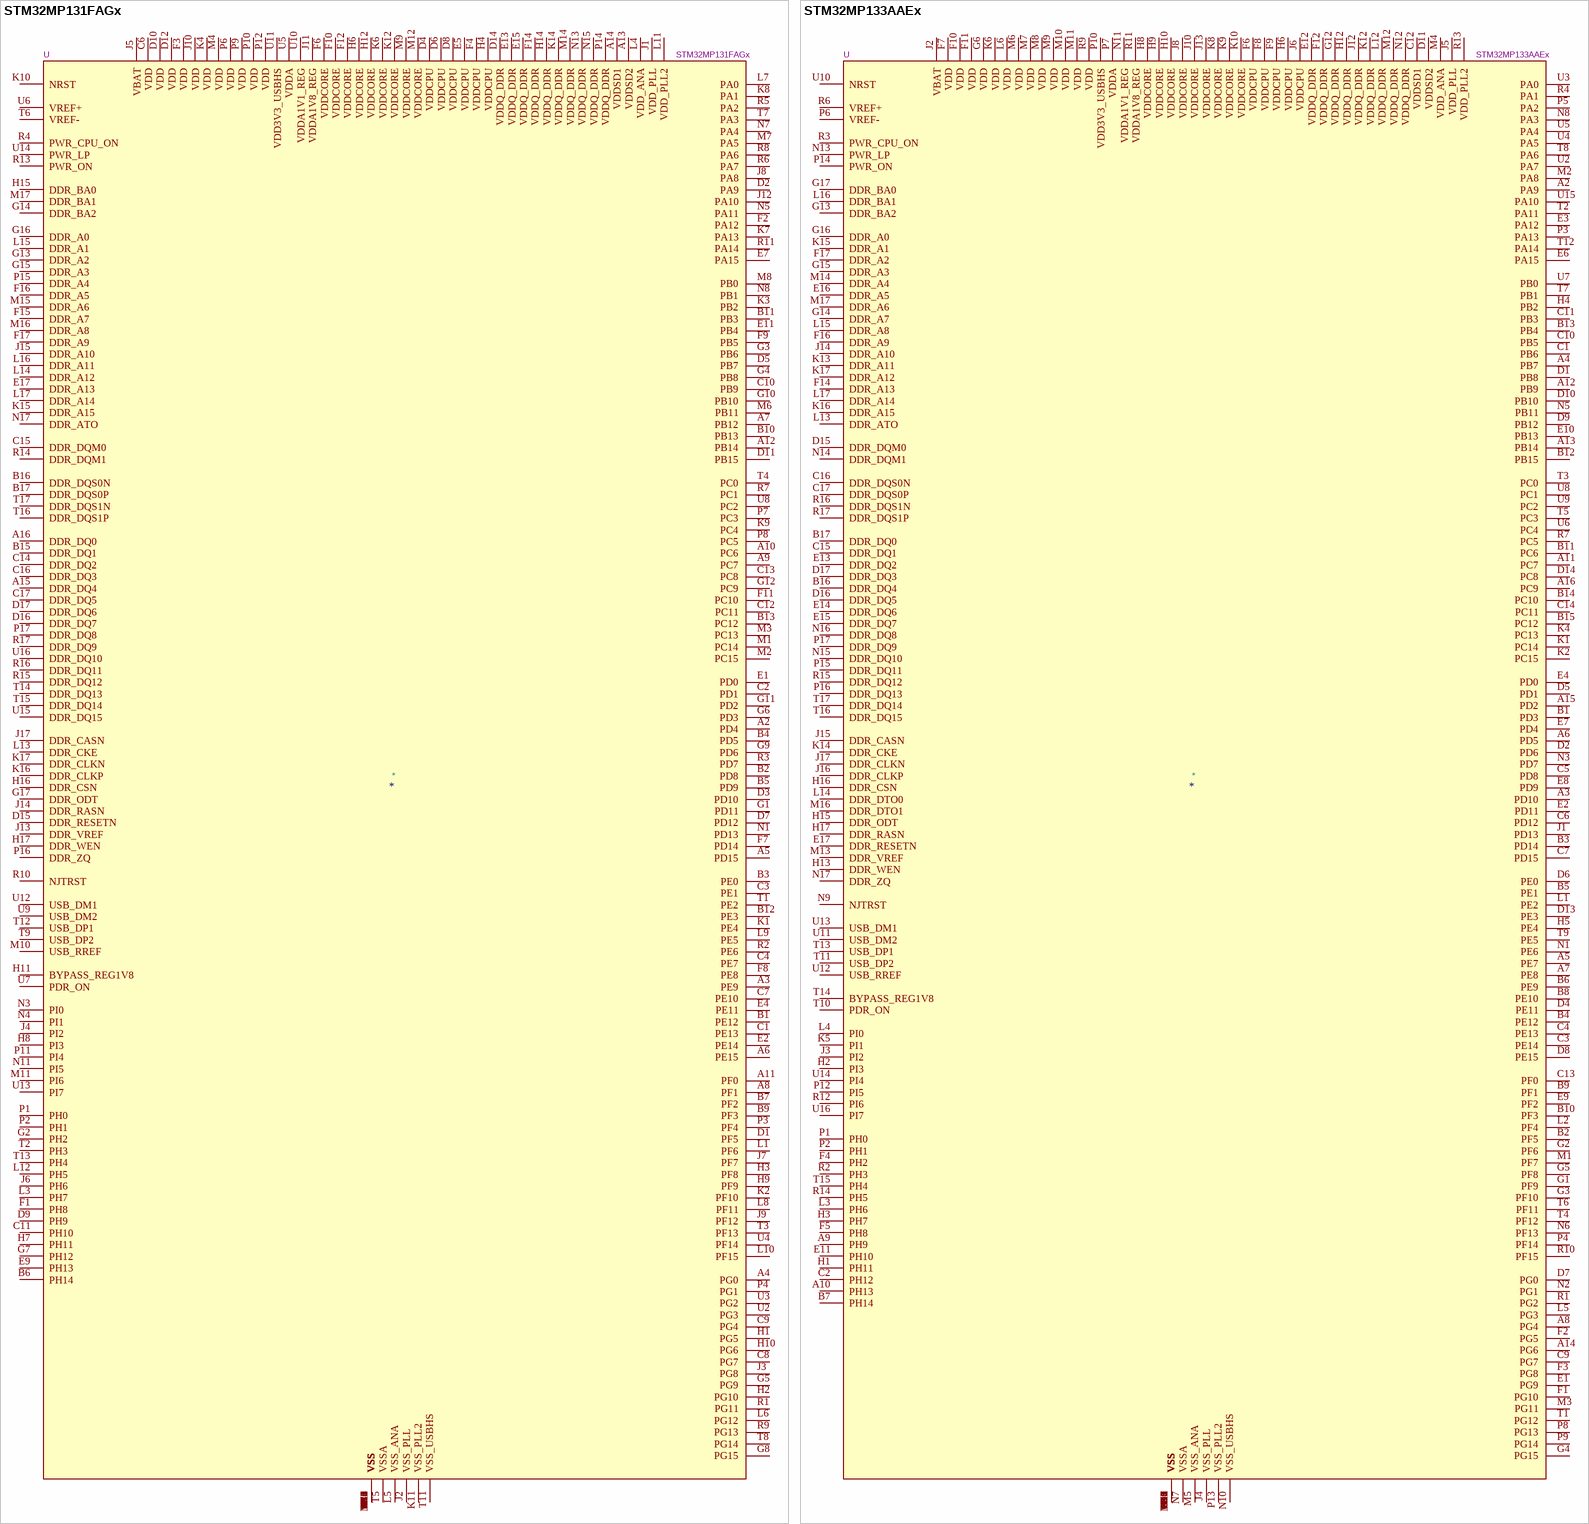
[diagram p8: symbols STM32MP131FAGx to STM32MP133AAEx]

## STM32MP131FAGx
designator *  value STM32MP131FAGx  Reference: U
STMicroelectronics Arm Cortex-A7 MCU, 0KB flash, 168KB RAM, 136 GPIO, TFBGA289; ki_keywords: Arm Cortex-A7 STM32MP1 STM32MP131; ki_fp_filters: TFBGA*9x9mm*Layout17x17*P0.5mm*; Footprint: Package_BGA:TFBGA-289_9x9mm_Layout17x17_P0.5mm; Datasheet: https://www.st.com/resource/en/datasheet/stm32mp131f.pdf; Description_: STMicroelectronics Arm Cortex-A7 MCU, 0KB flash, 168KB RAM, 136 GPIO, TFBGA289
pins: A1 VSS, A2 PD4, A3 PE9, A4 PG0, A5 PD15, A6 PE15, A7 PB12, A8 PF1, A9 PC7, A10 PC6, A11 PF0, A12 PB14, A13 VDDSD2, A14 VDDSD1, A15 DDR_DQ4, A16 DDR_DQ0, A17 VSS, B1 PE12, B2 PD8, B3 PE0, B4 PD5, B5 PD9, B6 PH14, B7 PF2, B8 VSS, B9 PF3, B10 PB13, B11 PB3, B12 PE3, B13 PC12, B14 VSS, B15 DDR_DQ1, B16 DDR_DQS0N, B17 DDR_DQS0P, C1 PE13, C2 PD1, C3 PE1, C4 PE7, C5 VSS, C6 VDD, C7 PE10, C8 PG7, C9 PG4, C10 PB9, C11 PH10, C12 PC11, C13 PC8, C14 DDR_DQ2, C15 DDR_DQM0, C16 DDR_DQ3, C17 DDR_DQ5, D1 PF5, D2 PA9, D3 PD10, D4 VDDCPU, D5 PB7, D6 VDDCPU, D7 PD12, D8 VDDCPU, D9 PH9, D10 VDD, D11 PB15, D12 VDD, D13 VSS, D14 VDDQ_DDR, D15 DDR_RESETN, D16 DDR_DQ7, D17 DDR_DQ6, E1 PD0, E2 PE14, E3 VSS, E4 PE11, E5 VDDCPU, E6 VSS, E7 PA15, E8 VSS, E9 PH13, E10 VSS, E11 PB4, E12 VSS, E13 VDDQ_DDR, E14 VSS, E15 VDDQ_DDR, E16 VSS, E17 DDR_A13, F1 PH8, F2 PA12, F3 VDD, F4 VDDCPU, F5 VSS, F6 VDDCORE, F7 PD14, F8 PE8, F9 PB5, F10 VDDCORE, F11 PC10, F12 VDDCORE, F13 VSS, F14 VDDQ_DDR, F15 DDR_A7, F16 DDR_A5, F17 DDR_A9, G1 PD11, G2 PH2, G3 PB6, G4 PB8, G5 PG9, G6 PD3, G7 PH12, G8 PG15, G9 PD6, G10 PB10, G11 PD2, G12 PC9, G13 DDR_A2, G14 DDR_BA2, G15 DDR_A3, G16 DDR_A0, G17 DDR_ODT, H1 PG5, H2 PG10, H3 PF8, H4 VDDCPU, H5 VSS, H6 VDDCORE, H7 PH11, H8 PI3, H9 PF9, H10 PG6, H11 BYPASS_REG1V8, H12 VDDCORE, H13 VSS, H14 VDDQ_DDR, H15 DDR_BA0, H16 DDR_CSN, H17 DDR_WEN, J1 VDD_PLL, J2 VSS_PLL, J3 PG8, J4 PI2, J5 VBAT, J6 PH6, J7 PF7, J8 PA8, J9 PF12, J10 VDD, J11 VDDA1V8_REG, J12 PA10, J13 DDR_VREF, J14 DDR_RASN, J15 DDR_A10, J16 VSS, J17 DDR_CASN, K1 PE4, K2 PF10, K3 PB2, K4 VDD, K5 VSS, K6 VDDCORE, K7 PA13, K8 PA1, K9 PC4, K10 NRST, K11 VSS_PLL2, K12 VDDCORE, K13 VSS, K14 VDDQ_DDR, K15 DDR_A15, K16 DDR_CLKP, K17 DDR_CLKN, L1 PF6, L2 VSS, L3 PH7, L4 VDD_ANA, L5 VSS_ANA, L6 PG12, L7 PA0, L8 PF11, L9 PE5, L10 PF15, L11 VDD_PLL2, L12 PH5, L13 DDR_CKE, L14 DDR_A12, L15 DDR_A1, L16 DDR_A11, L17 DDR_A14, M1 PC14, M2 PC15, M3 PC13, M4 VDD, M5 VSS, M6 PB11, M7 PA5, M8 PB0, M9 VDDCORE, M10 USB_RREF, M11 PI6, M12 VDDCORE, M13 VSS, M14 VDDQ_DDR, M15 DDR_A6, M16 DDR_A8, M17 DDR_BA1, N1 PD13, N2 VSS, N3 PI0, N4 PI1, N5 PA11, N6 VSS, N7 PA4, N8 PB1, N9 VSS, N10 VSS, N11 PI5, N12 VSS, N13 VDDQ_DDR, N14 VSS, N15 VDDQ_DDR, N16 VSS, N17 DDR_ATO, P1 PH0, P2 PH1, P3 PF4, P4 PG1, P5 VSS, P6 VDD, P7 PC3, P8 PC5, P9 VDD, P10 VDD, P11 PI4, P12 VDD, P13 VSS, P14 VDDQ_DDR, P15 DDR_A4, P16 DDR_ZQ, P17 DDR_DQ8, R1 PG11, R2 PE6, R3 PD7, R4 PWR_CPU_ON, R5 PA2, R6 PA7, R7 PC1, R8 PA6, R9 PG13, R10 NJTRST, R11 PA14, R12 VSS, R13 PWR_ON, R14 DDR_DQM1, R15 DDR_DQ12, R16 DDR_DQ11, R17 DDR_DQ9, T1 PE2, T2 PH3, T3 PF13, T4 PC0, T5 VSSA, T6 VREF-, T7 PA3, T8 PG14, T9 USB_DP2, T10 VSS, T11 VSS_USBHS, T12 USB_DP1, T13 PH4, T14 DDR_DQ13, T15 DDR_DQ14, T16 DDR_DQS1P, T17 DDR_DQS1N, U1 VSS, U2 PG3, U3 PG2, U4 PF14, U5 VDDA, U6 VREF+, U7 PDR_ON, U8 PC2, U9 USB_DM2, U10 VDDA1V1_REG, U11 VDD3V3_USBHS, U12 USB_DM1, U13 PI7, U14 PWR_LP, U15 DDR_DQ15, U16 DDR_DQ10, U17 VSS

## STM32MP133AAEx
designator *  value STM32MP133AAEx  Reference: U
STMicroelectronics Arm Cortex-A7 MCU, 0KB flash, 168KB RAM, 136 GPIO, LFBGA289; ki_keywords: Arm Cortex-A7 STM32MP1 STM32MP133; ki_fp_filters: LFBGA*14x14mm*Layout17x17*P0.8mm*; Footprint: Package_BGA:LFBGA-289_14x14mm_Layout17x17_P0.8mm; Datasheet: https://www.st.com/resource/en/datasheet/stm32mp133a.pdf; Description_: STMicroelectronics Arm Cortex-A7 MCU, 0KB flash, 168KB RAM, 136 GPIO, LFBGA289
pins: A1 VSS, A2 PA9, A3 PD10, A4 PB7, A5 PE7, A6 PD5, A7 PE8, A8 PG4, A9 PH9, A10 PH13, A11 PC7, A12 PB9, A13 PB14, A14 PG6, A15 PD2, A16 PC9, A17 VSS, B1 PD3, B2 PF5, B3 PD14, B4 PE12, B5 PE1, B6 PE9, B7 PH14, B8 PE10, B9 PF1, B10 PF3, B11 PC6, B12 PB15, B13 PB4, B14 PC10, B15 PC12, B16 DDR_DQ4, B17 DDR_DQ0, C1 PB6, C2 PH12, C3 PE14, C4 PE13, C5 PD8, C6 PD12, C7 PD15, C8 VSS, C9 PG7, C10 PB5, C11 PB3, C12 VDDSD1, C13 PF0, C14 PC11, C15 DDR_DQ1, C16 DDR_DQS0N, C17 DDR_DQS0P, D1 PB8, D2 PD6, D3 VSS, D4 PE11, D5 PD1, D6 PE0, D7 PG0, D8 PE15, D9 PB12, D10 PB10, D11 VDDSD2, D12 VSS, D13 PE3, D14 PC8, D15 DDR_DQM0, D16 DDR_DQ5, D17 DDR_DQ3, E1 PG9, E2 PD11, E3 PA12, E4 PD0, E5 VSS, E6 PA15, E7 PD4, E8 PD9, E9 PF2, E10 PB13, E11 PH10, E12 VDDQ_DDR, E13 DDR_DQ2, E14 DDR_DQ6, E15 DDR_DQ7, E16 DDR_A5, E17 DDR_RESETN, F1 PG10, F2 PG5, F3 PG8, F4 PH2, F5 PH8, F6 VDDCPU, F7 VDD, F8 VDDCPU, F9 VDDCPU, F10 VDD, F11 VDD, F12 VDDQ_DDR, F13 VSS, F14 DDR_A13, F15 VSS, F16 DDR_A9, F17 DDR_A2, G1 PF9, G2 PF6, G3 PF10, G4 PG15, G5 PF8, G6 VDD, G7 VSS, G8 VSS, G9 VSS, G10 VSS, G11 VSS, G12 VDDQ_DDR, G13 DDR_BA2, G14 DDR_A7, G15 DDR_A3, G16 DDR_A0, G17 DDR_BA0, H1 PH11, H2 PI3, H3 PH7, H4 PB2, H5 PE4, H6 VDDCPU, H7 VSS, H8 VDDCORE, H9 VDDCORE, H10 VDDCORE, H11 VSS, H12 VDDQ_DDR, H13 DDR_WEN, H14 VSS, H15 DDR_ODT, H16 DDR_CSN, H17 DDR_RASN, J1 PD13, J2 VBAT, J3 PI2, J4 VSS_PLL, J5 VDD_PLL, J6 VDDCPU, J7 VSS, J8 VDDCORE, J9 VSS, J10 VDDCORE, J11 VSS, J12 VDDQ_DDR, J13 VDDCORE, J14 DDR_A10, J15 DDR_CASN, J16 DDR_CLKP, J17 DDR_CLKN, K1 PC14, K2 PC15, K3 VSS, K4 PC13, K5 PI1, K6 VDD, K7 VSS, K8 VDDCORE, K9 VDDCORE, K10 VDDCORE, K11 VSS, K12 VDDQ_DDR, K13 DDR_A11, K14 DDR_CKE, K15 DDR_A1, K16 DDR_A15, K17 DDR_A12, L1 PE2, L2 PF4, L3 PH6, L4 PI0, L5 PG3, L6 VDD, L7 VSS, L8 VSS, L9 VSS, L10 VSS, L11 VSS, L12 VDDQ_DDR, L13 DDR_ATO, L14 DDR_DTO0, L15 DDR_A8, L16 DDR_BA1, L17 DDR_A14, M1 PF7, M2 PA8, M3 PG11, M4 VDD_ANA, M5 VSS_ANA, M6 VDD, M7 VDD, M8 VDD, M9 VDD, M10 VDD, M11 VDD, M12 VDDQ_DDR, M13 DDR_VREF, M14 DDR_A4, M15 VSS, M16 DDR_DTO1, M17 DDR_A6, N1 PE6, N2 PG1, N3 PD7, N4 VSS, N5 PB11, N6 PF13, N7 VSSA, N8 PA3, N9 NJTRST, N10 VSS_USBHS, N11 VDDA1V1_REG, N12 VDDQ_DDR, N13 PWR_LP, N14 DDR_DQM1, N15 DDR_DQ10, N16 DDR_DQ8, N17 DDR_ZQ, P1 PH0, P2 PH1, P3 PA13, P4 PF14, P5 PA2, P6 VREF-, P7 VDDA, P8 PG13, P9 PG14, P10 VDD3V3_USBHS, P11 VSS, P12 PI5, P13 VSS_PLL2, P14 PWR_ON, P15 DDR_DQ11, P16 DDR_DQ13, P17 DDR_DQ9, R1 PG2, R2 PH3, R3 PWR_CPU_ON, R4 PA1, R5 VSS, R6 VREF+, R7 PC5, R8 VSS, R9 VDD, R10 PF15, R11 VDDA1V8_REG, R12 PI6, R13 VDD_PLL2, R14 PH5, R15 DDR_DQ12, R16 DDR_DQS1N, R17 DDR_DQS1P, T1 PG12, T2 PA11, T3 PC0, T4 PF12, T5 PC3, T6 PF11, T7 PB1, T8 PA6, T9 PE5, T10 PDR_ON, T11 USB_DP2, T12 PA14, T13 USB_DP1, T14 BYPASS_REG1V8, T15 PH4, T16 DDR_DQ15, T17 DDR_DQ14, U1 VSS, U2 PA7, U3 PA0, U4 PA5, U5 PA4, U6 PC4, U7 PB0, U8 PC1, U9 PC2, U10 NRST, U11 USB_DM2, U12 USB_RREF, U13 USB_DM1, U14 PI4, U15 PA10, U16 PI7, U17 VSS

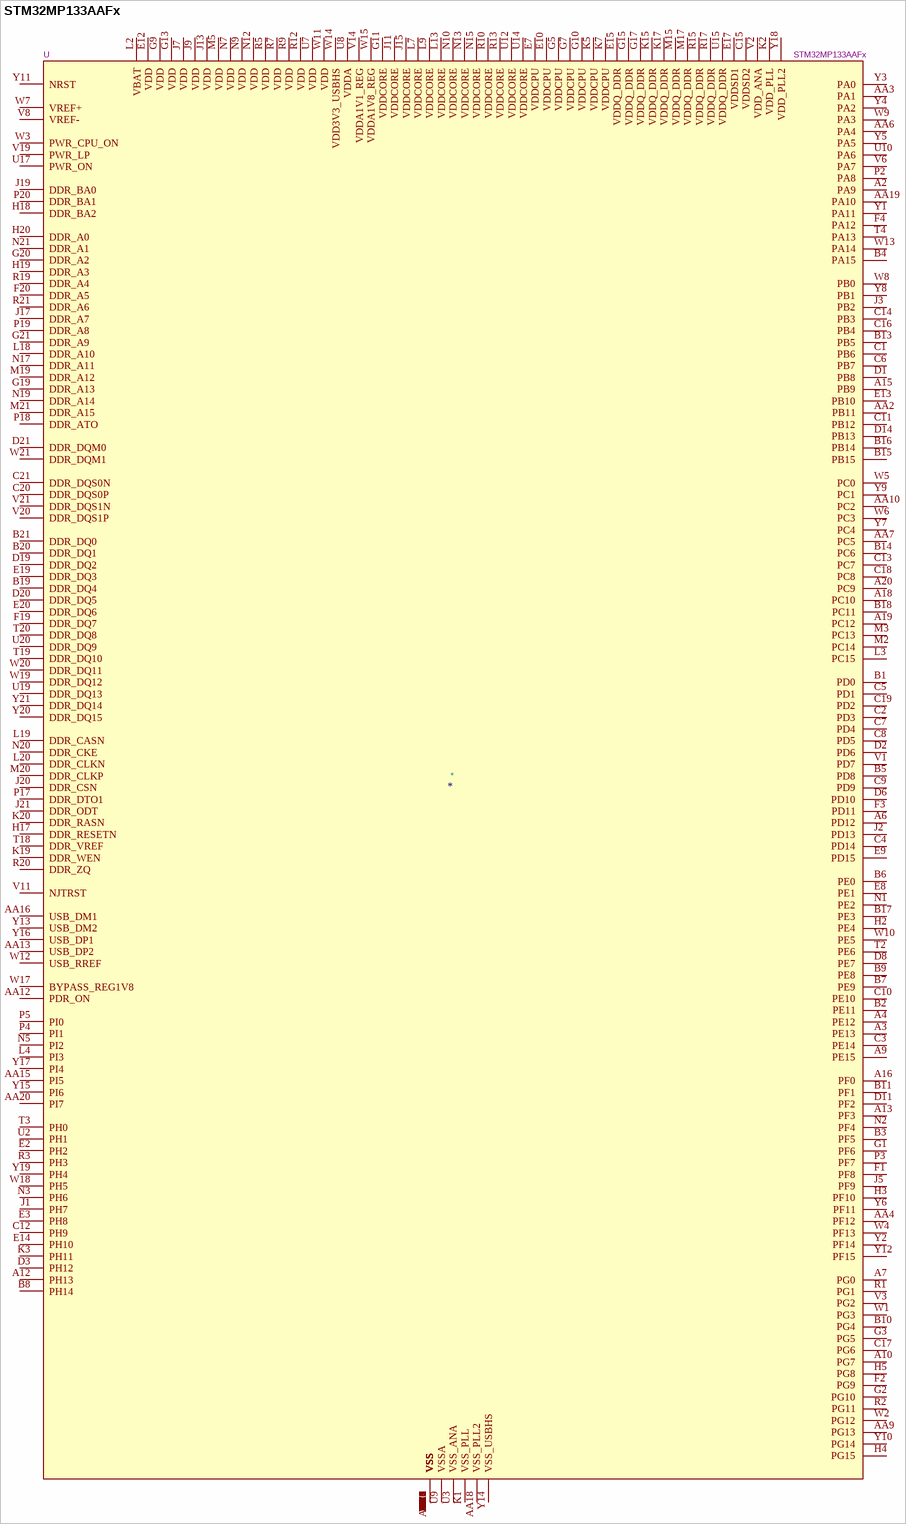
[diagram p9: symbol STM32MP133AAFx]